# Altium integrated library Altera Cyclone III.IntLib: 225 symbols (part 32 of 46)

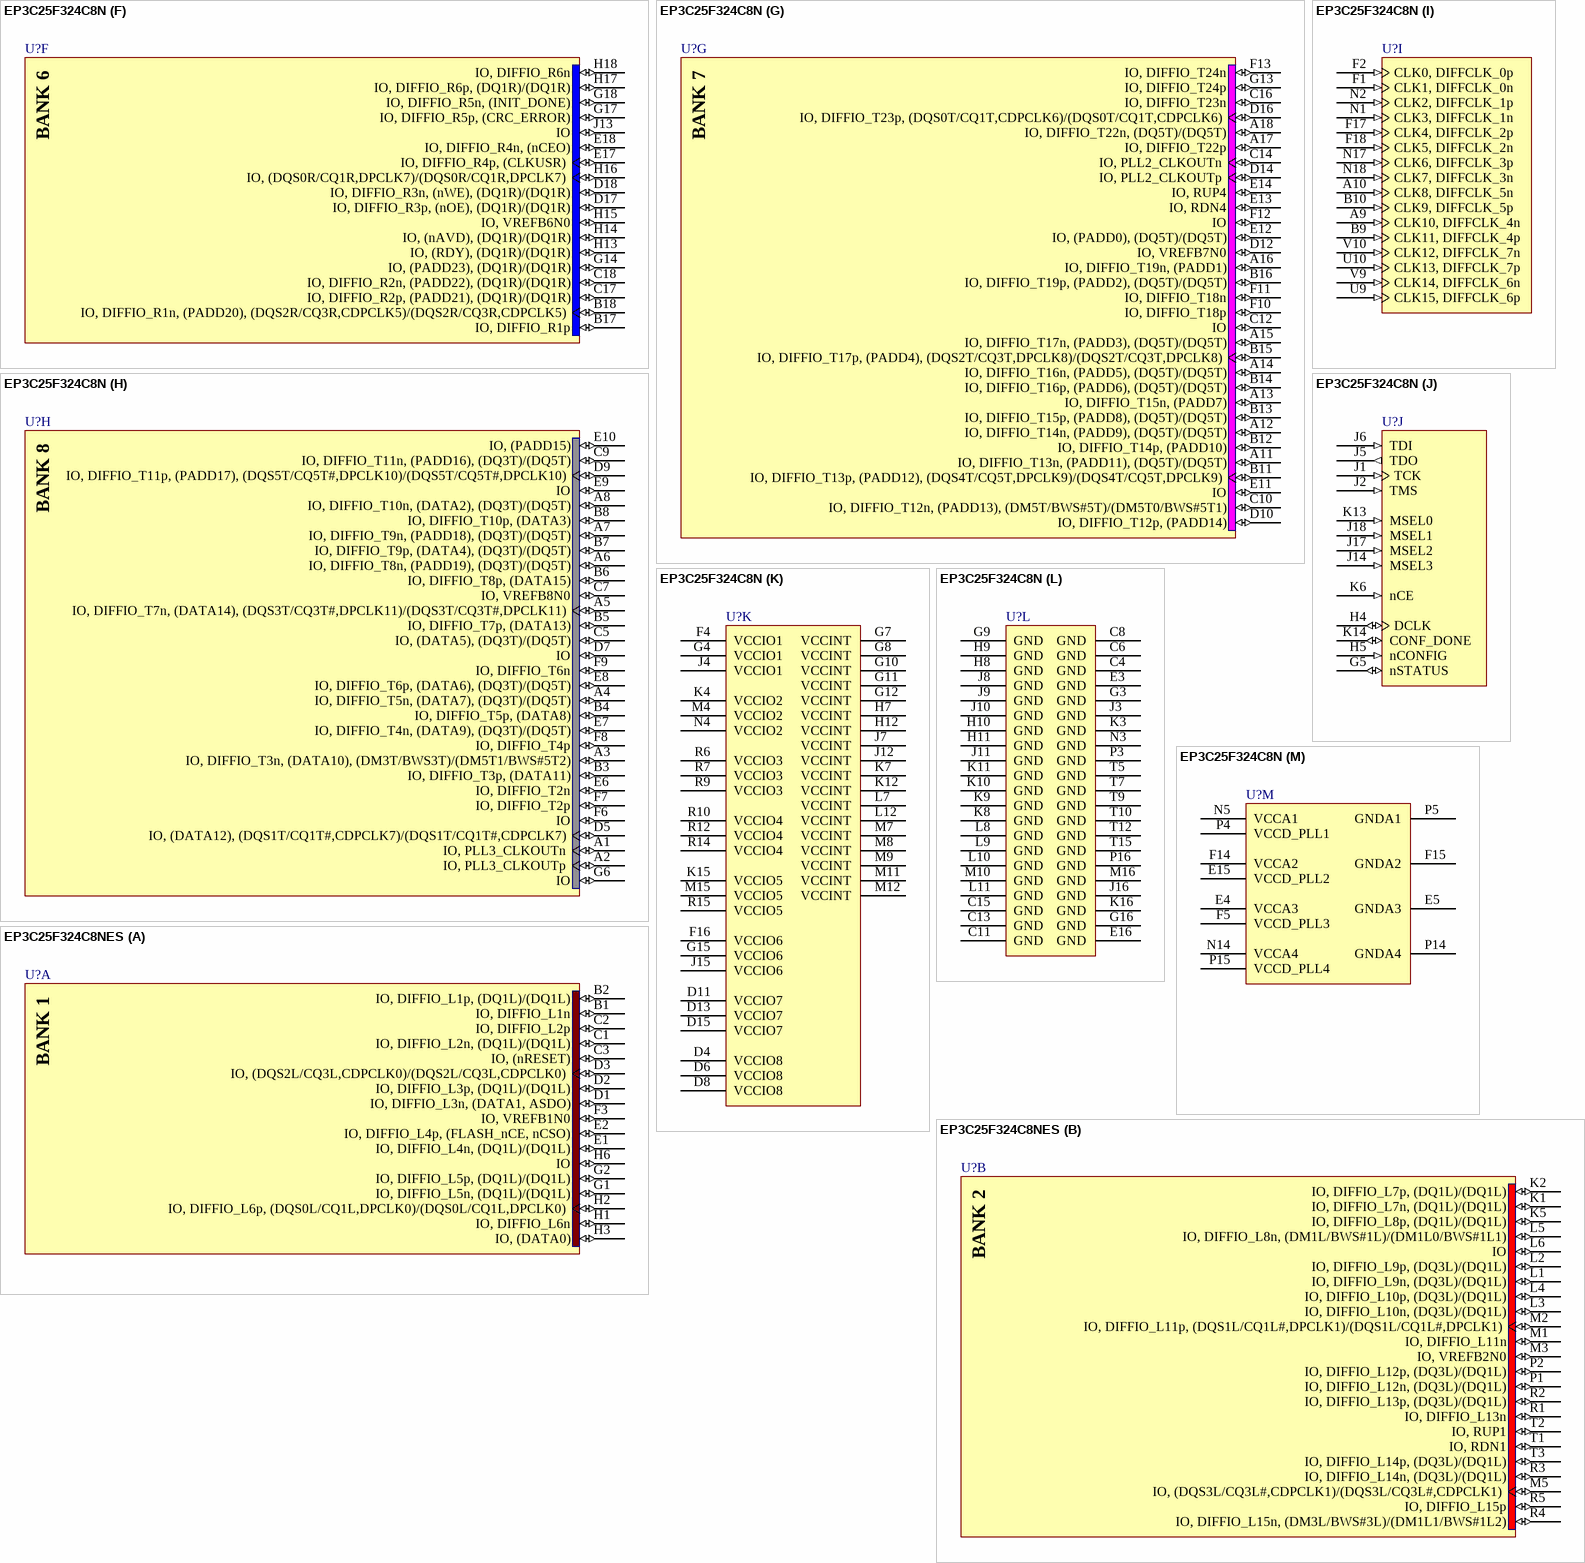
[diagram p149: symbols EP3C25F324C8N to EP3C25F324C8NES]

## EP3C25F324C8N
designator U?
Cyclone III Family FPGA, 215 I/O Pins, 4 PLLs, 324-Pin FBGA, Speed Grade 8, Commercial Grade, Pb-Free; DatasheetVersion: ver2.0, May-2008; PackageVersion: ver16.0, Dec-2009; PackageReference: FBGA324; PackageDescription: 324-Ball FineLine Ball Grid Array (FBGA324) - Wire Bond; Code_JEDEC: MS-034-AAG-1; Code_IPC: BGA100P18X18-324; ComponentLink1Description: Manufacturer URL; ComponentLink1URL: http://www.altera.com/; ComponentLink2Description: Handbook (7.86MB); ComponentLink2URL: http://www.altera.com/literature/hb/cyc3/cyclone3_handbook.pdf; ComponentLink3Description: Package Specification; ComponentLink3URL: http://www.altera.com/literature/ds/dspkg.pdf
footprint FBGA324 (BGA, 324-Leads, Body 19x19mm, Pitch 1mm)
part A pins: B1 IO, DIFFIO_L1n (io), B2 IO, DIFFIO_L1p, (DQ1L)/(DQ1L) (io), C1 IO, DIFFIO_L2n, (DQ1L)/(DQ1L) (io), C2 IO, DIFFIO_L2p (io), C3 IO, (nRESET) (io), D1 IO, DIFFIO_L3n, (DATA1, ASDO) (io), D2 IO, DIFFIO_L3p, (DQ1L)/(DQ1L) (io), D3 IO, (DQS2L/CQ3L,CDPCLK0)/(DQS2L/CQ3L,CDPCLK0) (io), E1 IO, DIFFIO_L4n, (DQ1L)/(DQ1L) (io), E2 IO, DIFFIO_L4p, (FLASH_nCE, nCSO) (io), F3 IO, VREFB1N0 (io), G1 IO, DIFFIO_L5n, (DQ1L)/(DQ1L) (io), G2 IO, DIFFIO_L5p, (DQ1L)/(DQ1L) (io), H1 IO, DIFFIO_L6n (io), H2 IO, DIFFIO_L6p, (DQS0L/CQ1L,DPCLK0)/(DQS0L/CQ1L,DPCLK0) (io), H3 IO, (DATA0) (io), H6 IO (io)
part B pins: K1 IO, DIFFIO_L7n, (DQ1L)/(DQ1L) (io), K2 IO, DIFFIO_L7p, (DQ1L)/(DQ1L) (io), K5 IO, DIFFIO_L8p, (DQ1L)/(DQ1L) (io), L1 IO, DIFFIO_L9n, (DQ3L)/(DQ1L) (io), L2 IO, DIFFIO_L9p, (DQ3L)/(DQ1L) (io), L3 IO, DIFFIO_L10n, (DQ3L)/(DQ1L) (io), L4 IO, DIFFIO_L10p, (DQ3L)/(DQ1L) (io), L5 IO, DIFFIO_L8n, (DM1L/BWS#1L)/(DM1L0/BWS#1L1) (io), L6 IO (io), M1 IO, DIFFIO_L11n (io), M2 IO, DIFFIO_L11p, (DQS1L/CQ1L#,DPCLK1)/(DQS1L/CQ1L#,DPCLK1) (io), M3 IO, VREFB2N0 (io), M5 IO, (DQS3L/CQ3L#,CDPCLK1)/(DQS3L/CQ3L#,CDPCLK1) (io), P1 IO, DIFFIO_L12n, (DQ3L)/(DQ1L) (io), P2 IO, DIFFIO_L12p, (DQ3L)/(DQ1L) (io), R1 IO, DIFFIO_L13n (io), R2 IO, DIFFIO_L13p, (DQ3L)/(DQ1L) (io), R3 IO, DIFFIO_L14n, (DQ3L)/(DQ1L) (io), R4 IO, DIFFIO_L15n, (DM3L/BWS#3L)/(DM1L1/BWS#1L2) (io), R5 IO, DIFFIO_L15p (io), T1 IO, RDN1 (io), T2 IO, RUP1 (io), T3 IO, DIFFIO_L14p, (DQ3L)/(DQ1L) (io)
part C pins: M6 IO, DIFFIO_B2p (io), N6 IO, DIFFIO_B2n (io), N7 IO (io), N8 IO (io), N9 IO (io), P6 IO, (DQS1B/CQ1B#,CDPCLK2)/(DQS1B/CQ1B#,CDPCLK2) (io), P7 IO (io), P8 IO, DIFFIO_B9p (io), P9 IO, DIFFIO_B9n, (DQ3B)/(DQ5B) (io), R8 IO, DIFFIO_B8p, (DQ3B)/(DQ5B) (io), T4 IO (io), T6 IO, VREFB3N0 (io), T8 IO, DIFFIO_B8n, (DQS5B/CQ5B#,DPCLK3)/(DQS5B/CQ5B#,DPCLK3) (io), U1 IO, DIFFIO_B1p (io), U2 IO, PLL1_CLKOUTp (io), U3 IO, DIFFIO_B5p, (DQS3B/CQ3B#,DPCLK2)/(DQS3B/CQ3B#,DPCLK2) (io), U4 IO, DIFFIO_B6p, (DQ3B)/(DQ5B) (io), U5 IO, DIFFIO_B7p (io), U6 IO, DIFFIO_B10p, (DQ3B)/(DQ5B) (io), U7 IO, DIFFIO_B11p (io), U8 IO, DIFFIO_B12p, (DQ3B)/(DQ5B) (io), V1 IO, DIFFIO_B1n (io), V2 IO, PLL1_CLKOUTn (io), V3 IO, DIFFIO_B5n, (DM3B/BWS#3B)/(DM5B1/BWS#5B2) (io), V4 IO, DIFFIO_B6n, (DQ3B)/(DQ5B) (io), V5 IO, DIFFIO_B7n, (DQ3B)/(DQ5B) (io), V6 IO, DIFFIO_B10n, (DQ3B)/(DQ5B) (io), V7 IO, DIFFIO_B11n, (DQ3B)/(DQ5B) (io), V8 IO, DIFFIO_B12n, (DM5B/BWS#5B)/(DM5B0/BWS#5B1) (io)
part D pins: M13 IO, DIFFIO_B25p (io), N10 IO, DIFFIO_B21p (io), N11 IO, DIFFIO_B21n (io), N12 IO, DIFFIO_B24n (io), N13 IO, DIFFIO_B25n (io), P10 IO, DIFFIO_B17p, (DQ5B)/(DQ5B) (io), P11 IO, DIFFIO_B17n (io), P12 IO, (DQS2B/CQ3B,DPCLK5)/(DQS2B/CQ3B,DPCLK5) (io), P13 IO, DIFFIO_B24p (io), R11 IO, (DQ5B)/(DQ5B) (io), R13 IO, (DQS0B/CQ1B,CDPCLK3)/(DQS0B/CQ1B,CDPCLK3) (io), T11 IO, VREFB4N0 (io), T13 IO, RUP2 (io), T14 IO, RDN2 (io), U11 IO, DIFFIO_B13p, (DQ5B)/(DQ5B) (io), U12 IO, DIFFIO_B14p, (DQ5B)/(DQ5B) (io), U13 IO, DIFFIO_B16p, (DQ5B)/(DQ5B) (io), U14 IO, DIFFIO_B18p, (DQ5B)/(DQ5B) (io), U15 IO, DIFFIO_B19p (io), U16 IO, DIFFIO_B20p (io), U17 IO, DIFFIO_B22p (io), U18 IO, PLL4_CLKOUTp (io), V11 IO, DIFFIO_B13n (io), V12 IO, DIFFIO_B14n (io), V13 IO, DIFFIO_B16n, (DQS4B/CQ5B,DPCLK4)/(DQS4B/CQ5B,DPCLK4) (io), V14 IO, DIFFIO_B18n, (DQ5B)/(DQ5B) (io), V15 IO, DIFFIO_B19n, (DQ5B)/(DQ5B) (io), V16 IO, DIFFIO_B20n, (DQ5B)/(DQ5B) (io), V17 IO, DIFFIO_B22n (io), V18 IO, PLL4_CLKOUTn (io)
part E pins: K17 IO, (DQ1R)/(DQ1R) (io), K18 IO, DIFFIO_R8p, (DM1R/BWS#1R)/(DM1R0/BWS#1R1) (io), L13 IO, DIFFIO_R12p, (DQ3R)/(DQ1R) (io), L14 IO, DIFFIO_R11p, (DQ3R)/(DQ1R) (io), L15 IO, DIFFIO_R11n, (DQ3R)/(DQ1R) (io), L16 IO, DIFFIO_R10p, (DQS1R/CQ1R#,DPCLK6)/(DQS1R/CQ1R#,DPCLK6) (io), L17 IO, DIFFIO_R9p, (DEV_CLRn) (io), L18 IO, DIFFIO_R8n (io), M14 IO, DIFFIO_R12n, (DQ3R)/(DQ1R) (io), M17 IO, DIFFIO_R10n, (DQ3R)/(DQ1R) (io), M18 IO, DIFFIO_R9n, (DEV_OE) (io), N15 IO, (DM3R/BWS#3R)/(DM1R1/BWS#1R2) (io), N16 IO, VREFB5N0 (io), P17 IO, DIFFIO_R13p, (DQ3R)/(DQ1R) (io), P18 IO, DIFFIO_R13n, (DQ3R)/(DQ1R) (io), R16 IO, RDN3 (io), R17 IO, DIFFIO_R14p (io), R18 IO, DIFFIO_R14n (io), T16 IO, RUP3, (DQ3R)/(DQ1R) (io), T17 IO, DIFFIO_R15p, (DQ3R)/(DQ1R) (io), T18 IO, DIFFIO_R15n, (DQS3R/CQ3R#,CDPCLK4)/(DQS3R/CQ3R#,CDPCLK4) (io)
part F pins: B17 IO, DIFFIO_R1p (io), B18 IO, DIFFIO_R1n, (PADD20), (DQS2R/CQ3R,CDPCLK5)/(DQS2R/CQ3R,CDPCLK5) (io), C17 IO, DIFFIO_R2p, (PADD21), (DQ1R)/(DQ1R) (io), C18 IO, DIFFIO_R2n, (PADD22), (DQ1R)/(DQ1R) (io), D17 IO, DIFFIO_R3p, (nOE), (DQ1R)/(DQ1R) (io), D18 IO, DIFFIO_R3n, (nWE), (DQ1R)/(DQ1R) (io), E17 IO, DIFFIO_R4p, (CLKUSR) (io), E18 IO, DIFFIO_R4n, (nCEO) (io), G14 IO, (PADD23), (DQ1R)/(DQ1R) (io), G17 IO, DIFFIO_R5p, (CRC_ERROR) (io), G18 IO, DIFFIO_R5n, (INIT_DONE) (io), H13 IO, (RDY), (DQ1R)/(DQ1R) (io), H14 IO, (nAVD), (DQ1R)/(DQ1R) (io), H15 IO, VREFB6N0 (io), H16 IO, (DQS0R/CQ1R,DPCLK7)/(DQS0R/CQ1R,DPCLK7) (io), H17 IO, DIFFIO_R6p, (DQ1R)/(DQ1R) (io), H18 IO, DIFFIO_R6n (io), J13 IO (io)
part G pins: A11 IO, DIFFIO_T13n, (PADD11), (DQ5T)/(DQ5T) (io), A12 IO, DIFFIO_T14n, (PADD9), (DQ5T)/(DQ5T) (io), A13 IO, DIFFIO_T15n, (PADD7) (io), A14 IO, DIFFIO_T16n, (PADD5), (DQ5T)/(DQ5T) (io), A15 IO, DIFFIO_T17n, (PADD3), (DQ5T)/(DQ5T) (io), A16 IO, DIFFIO_T19n, (PADD1) (io), A17 IO, DIFFIO_T22p (io), A18 IO, DIFFIO_T22n, (DQ5T)/(DQ5T) (io), B11 IO, DIFFIO_T13p, (PADD12), (DQS4T/CQ5T,DPCLK9)/(DQS4T/CQ5T,DPCLK9) (io), B12 IO, DIFFIO_T14p, (PADD10) (io), B13 IO, DIFFIO_T15p, (PADD8), (DQ5T)/(DQ5T) (io), B14 IO, DIFFIO_T16p, (PADD6), (DQ5T)/(DQ5T) (io), B15 IO, DIFFIO_T17p, (PADD4), (DQS2T/CQ3T,DPCLK8)/(DQS2T/CQ3T,DPCLK8) (io), B16 IO, DIFFIO_T19p, (PADD2), (DQ5T)/(DQ5T) (io), C10 IO, DIFFIO_T12n, (PADD13), (DM5T/BWS#5T)/(DM5T0/BWS#5T1) (io), C12 IO (io), C14 IO, PLL2_CLKOUTn (io), C16 IO, DIFFIO_T23n (io), D10 IO, DIFFIO_T12p, (PADD14) (io), D12 IO, VREFB7N0 (io), D14 IO, PLL2_CLKOUTp (io), D16 IO, DIFFIO_T23p, (DQS0T/CQ1T,CDPCLK6)/(DQS0T/CQ1T,CDPCLK6) (io), E11 IO (io), E12 IO, (PADD0), (DQ5T)/(DQ5T) (io), E13 IO, RDN4 (io), E14 IO, RUP4 (io), F10 IO, DIFFIO_T18p (io), F11 IO, DIFFIO_T18n (io), F12 IO (io), F13 IO, DIFFIO_T24n (io), G13 IO, DIFFIO_T24p (io)
part H pins: A1 IO, PLL3_CLKOUTn (io), A2 IO, PLL3_CLKOUTp (io), A3 IO, DIFFIO_T3n, (DATA10), (DM3T/BWS3T)/(DM5T1/BWS#5T2) (io), A4 IO, DIFFIO_T5n, (DATA7), (DQ3T)/(DQ5T) (io), A5 IO, DIFFIO_T7n, (DATA14), (DQS3T/CQ3T#,DPCLK11)/(DQS3T/CQ3T#,DPCLK11) (io), A6 IO, DIFFIO_T8n, (PADD19), (DQ3T)/(DQ5T) (io), A7 IO, DIFFIO_T9n, (PADD18), (DQ3T)/(DQ5T) (io), A8 IO, DIFFIO_T10n, (DATA2), (DQ3T)/(DQ5T) (io), B3 IO, DIFFIO_T3p, (DATA11) (io), B4 IO, DIFFIO_T5p, (DATA8) (io), B5 IO, DIFFIO_T7p, (DATA13) (io), B6 IO, DIFFIO_T8p, (DATA15) (io), B7 IO, DIFFIO_T9p, (DATA4), (DQ3T)/(DQ5T) (io), B8 IO, DIFFIO_T10p, (DATA3) (io), C5 IO, (DATA5), (DQ3T)/(DQ5T) (io), C7 IO, VREFB8N0 (io), C9 IO, DIFFIO_T11n, (PADD16), (DQ3T)/(DQ5T) (io), D5 IO, (DATA12), (DQS1T/CQ1T#,CDPCLK7)/(DQS1T/CQ1T#,CDPCLK7) (io), D7 IO (io), D9 IO, DIFFIO_T11p, (PADD17), (DQS5T/CQ5T#,DPCLK10)/(DQS5T/CQ5T#,DPCLK10) (io), E6 IO, DIFFIO_T2n (io), E7 IO, DIFFIO_T4n, (DATA9), (DQ3T)/(DQ5T) (io), E8 IO, DIFFIO_T6p, (DATA6), (DQ3T)/(DQ5T) (io), E9 IO (io), E10 IO, (PADD15) (io), F6 IO (io), F7 IO, DIFFIO_T2p (io), F8 IO, DIFFIO_T4p (io), F9 IO, DIFFIO_T6n (io), G6 IO (io)
part I pins: A9 CLK10, DIFFCLK_4n (in), A10 CLK8, DIFFCLK_5n (in), B9 CLK11, DIFFCLK_4p (in), B10 CLK9, DIFFCLK_5p (in), F1 CLK1, DIFFCLK_0n (in), F2 CLK0, DIFFCLK_0p (in), F17 CLK4, DIFFCLK_2p (in), F18 CLK5, DIFFCLK_2n (in), N1 CLK3, DIFFCLK_1n (in), N2 CLK2, DIFFCLK_1p (in), N17 CLK6, DIFFCLK_3p (in), N18 CLK7, DIFFCLK_3n (in), U9 CLK15, DIFFCLK_6p (in), U10 CLK13, DIFFCLK_7p (in), V9 CLK14, DIFFCLK_6n (in), V10 CLK12, DIFFCLK_7n (in)
part J pins: G5 nSTATUS (io), H4 DCLK (io), H5 nCONFIG (in), J1 TCK (in), J2 TMS (in), J5 TDO (out), J6 TDI (in), J14 MSEL3 (in), J17 MSEL2 (in), J18 MSEL1 (in), K6 nCE (in), K13 MSEL0 (in), K14 CONF_DONE (io)
part K pins: D4 VCCIO8 (power), D6 VCCIO8 (power), D8 VCCIO8 (power), D11 VCCIO7 (power), D13 VCCIO7 (power), D15 VCCIO7 (power), F4 VCCIO1 (power), F16 VCCIO6 (power), G4 VCCIO1 (power), G7 VCCINT (power), G8 VCCINT (power), G10 VCCINT (power), G11 VCCINT (power), G12 VCCINT (power), G15 VCCIO6 (power), H7 VCCINT (power), H12 VCCINT (power), J4 VCCIO1 (power), J7 VCCINT (power), J12 VCCINT (power), J15 VCCIO6 (power), K4 VCCIO2 (power), K7 VCCINT (power), K12 VCCINT (power), K15 VCCIO5 (power), L7 VCCINT (power), L12 VCCINT (power), M4 VCCIO2 (power), M7 VCCINT (power), M8 VCCINT (power), M9 VCCINT (power), M11 VCCINT (power), M12 VCCINT (power), M15 VCCIO5 (power), N4 VCCIO2 (power), R6 VCCIO3 (power), R7 VCCIO3 (power), R9 VCCIO3 (power), R10 VCCIO4 (power), R12 VCCIO4 (power), R14 VCCIO4 (power), R15 VCCIO5 (power)
part L pins: C4 GND (power), C6 GND (power), C8 GND (power), C11 GND (power), C13 GND (power), C15 GND (power), E3 GND (power), E16 GND (power), G3 GND (power), G9 GND (power), G16 GND (power), H8 GND (power), H9 GND (power), H10 GND (power), H11 GND (power), J3 GND (power), J8 GND (power), J9 GND (power), J10 GND (power), J11 GND (power), J16 GND (power), K3 GND (power), K8 GND (power), K9 GND (power), K10 GND (power), K11 GND (power), K16 GND (power), L8 GND (power), L9 GND (power), L10 GND (power), L11 GND (power), M10 GND (power), M16 GND (power), N3 GND (power), P3 GND (power), P16 GND (power), T5 GND (power), T7 GND (power), T9 GND (power), T10 GND (power), T12 GND (power), T15 GND (power)
part M pins: E4 VCCA3 (power), E5 GNDA3 (power), E15 VCCD_PLL2 (power), F5 VCCD_PLL3 (power), F14 VCCA2 (power), F15 GNDA2 (power), N5 VCCA1 (power), N14 VCCA4 (power), P4 VCCD_PLL1 (power), P5 GNDA1 (power), P14 GNDA4 (power), P15 VCCD_PLL4 (power)
part A text: BANK 1
part B text: BANK 2
part C text: BANK 3
part D text: BANK 4
part E text: BANK 5
part F text: BANK 6
part G text: BANK 7
part H text: BANK 8

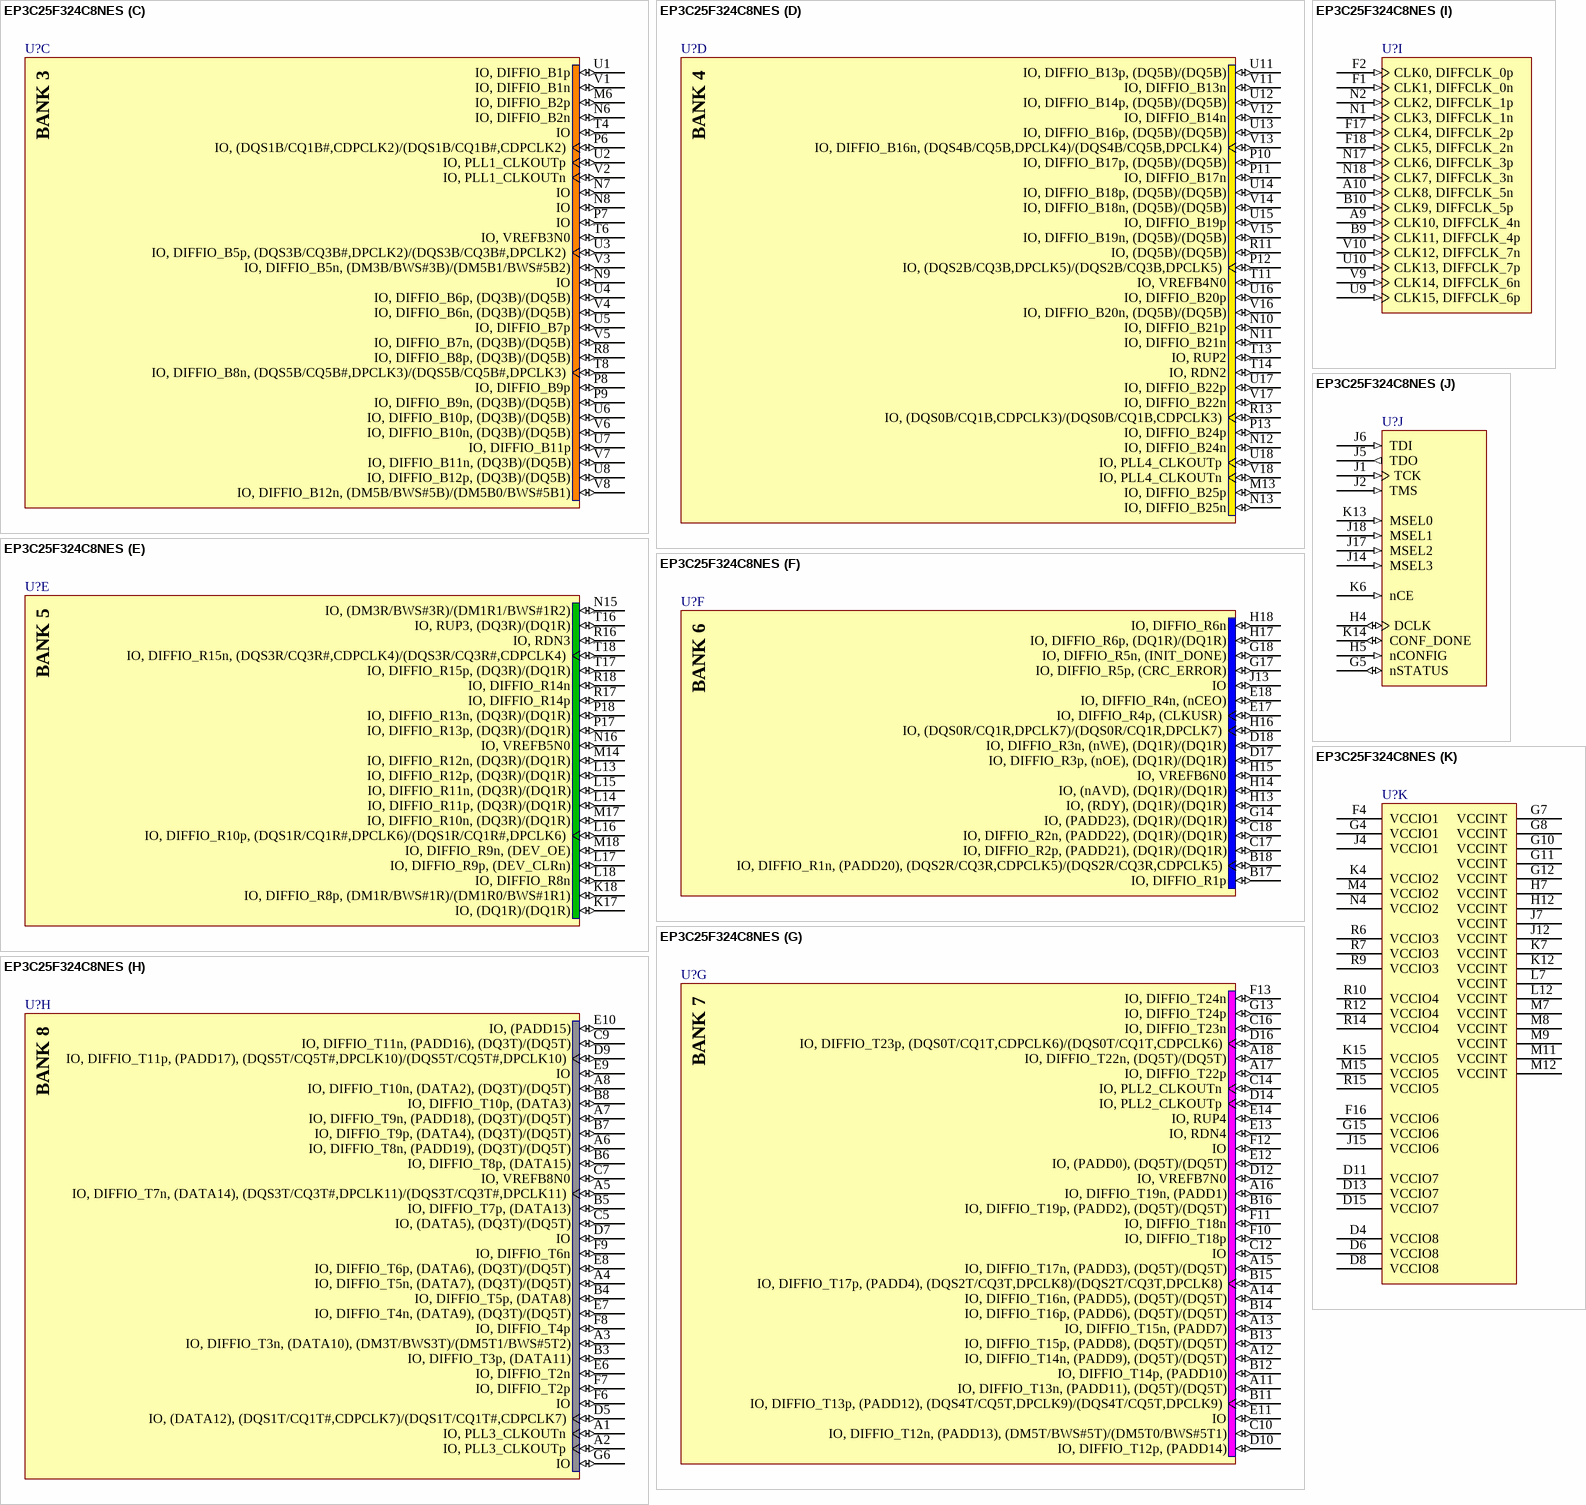
[diagram p150: symbol EP3C25F324C8NES]

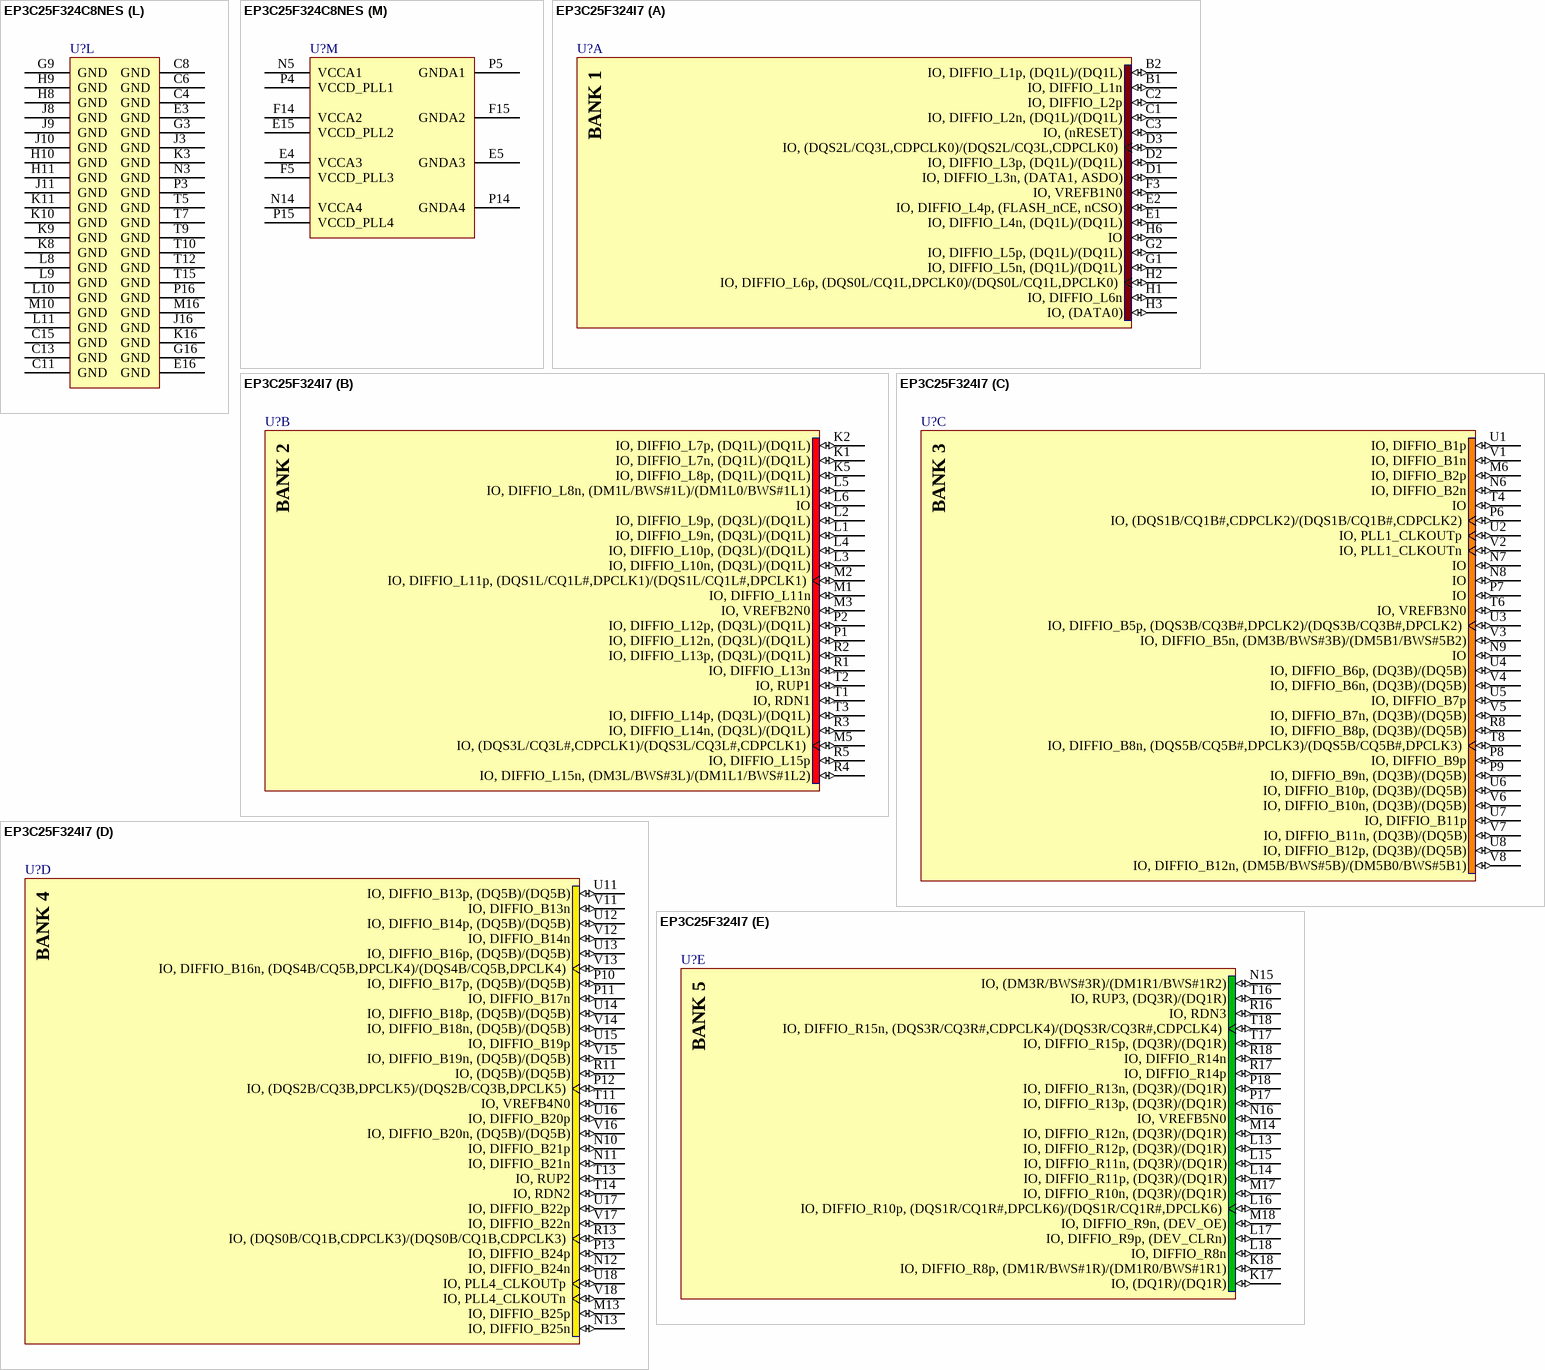
[diagram p151: symbols EP3C25F324C8NES to EP3C25F324I7]

## EP3C25F324C8NES
designator U?
Cyclone III Family FPGA, 215 I/O Pins, 4 PLLs, 324-Pin FBGA, Speed Grade 8, Commercial Grade, Pb-Free, Engineering Sample; DatasheetVersion: ver2.0, May-2008; PackageVersion: ver16.0, Dec-2009; PackageReference: FBGA324; PackageDescription: 324-Ball FineLine Ball Grid Array (FBGA324) - Wire Bond; Code_JEDEC: MS-034-AAG-1; Code_IPC: BGA100P18X18-324; ComponentLink1Description: Manufacturer URL; ComponentLink1URL: http://www.altera.com/; ComponentLink2Description: Handbook (7.86MB); ComponentLink2URL: http://www.altera.com/literature/hb/cyc3/cyclone3_handbook.pdf; ComponentLink3Description: Package Specification; ComponentLink3URL: http://www.altera.com/literature/ds/dspkg.pdf
footprint FBGA324 (BGA, 324-Leads, Body 19x19mm, Pitch 1mm)
part A pins: B1 IO, DIFFIO_L1n (io), B2 IO, DIFFIO_L1p, (DQ1L)/(DQ1L) (io), C1 IO, DIFFIO_L2n, (DQ1L)/(DQ1L) (io), C2 IO, DIFFIO_L2p (io), C3 IO, (nRESET) (io), D1 IO, DIFFIO_L3n, (DATA1, ASDO) (io), D2 IO, DIFFIO_L3p, (DQ1L)/(DQ1L) (io), D3 IO, (DQS2L/CQ3L,CDPCLK0)/(DQS2L/CQ3L,CDPCLK0) (io), E1 IO, DIFFIO_L4n, (DQ1L)/(DQ1L) (io), E2 IO, DIFFIO_L4p, (FLASH_nCE, nCSO) (io), F3 IO, VREFB1N0 (io), G1 IO, DIFFIO_L5n, (DQ1L)/(DQ1L) (io), G2 IO, DIFFIO_L5p, (DQ1L)/(DQ1L) (io), H1 IO, DIFFIO_L6n (io), H2 IO, DIFFIO_L6p, (DQS0L/CQ1L,DPCLK0)/(DQS0L/CQ1L,DPCLK0) (io), H3 IO, (DATA0) (io), H6 IO (io)
part B pins: K1 IO, DIFFIO_L7n, (DQ1L)/(DQ1L) (io), K2 IO, DIFFIO_L7p, (DQ1L)/(DQ1L) (io), K5 IO, DIFFIO_L8p, (DQ1L)/(DQ1L) (io), L1 IO, DIFFIO_L9n, (DQ3L)/(DQ1L) (io), L2 IO, DIFFIO_L9p, (DQ3L)/(DQ1L) (io), L3 IO, DIFFIO_L10n, (DQ3L)/(DQ1L) (io), L4 IO, DIFFIO_L10p, (DQ3L)/(DQ1L) (io), L5 IO, DIFFIO_L8n, (DM1L/BWS#1L)/(DM1L0/BWS#1L1) (io), L6 IO (io), M1 IO, DIFFIO_L11n (io), M2 IO, DIFFIO_L11p, (DQS1L/CQ1L#,DPCLK1)/(DQS1L/CQ1L#,DPCLK1) (io), M3 IO, VREFB2N0 (io), M5 IO, (DQS3L/CQ3L#,CDPCLK1)/(DQS3L/CQ3L#,CDPCLK1) (io), P1 IO, DIFFIO_L12n, (DQ3L)/(DQ1L) (io), P2 IO, DIFFIO_L12p, (DQ3L)/(DQ1L) (io), R1 IO, DIFFIO_L13n (io), R2 IO, DIFFIO_L13p, (DQ3L)/(DQ1L) (io), R3 IO, DIFFIO_L14n, (DQ3L)/(DQ1L) (io), R4 IO, DIFFIO_L15n, (DM3L/BWS#3L)/(DM1L1/BWS#1L2) (io), R5 IO, DIFFIO_L15p (io), T1 IO, RDN1 (io), T2 IO, RUP1 (io), T3 IO, DIFFIO_L14p, (DQ3L)/(DQ1L) (io)
part C pins: M6 IO, DIFFIO_B2p (io), N6 IO, DIFFIO_B2n (io), N7 IO (io), N8 IO (io), N9 IO (io), P6 IO, (DQS1B/CQ1B#,CDPCLK2)/(DQS1B/CQ1B#,CDPCLK2) (io), P7 IO (io), P8 IO, DIFFIO_B9p (io), P9 IO, DIFFIO_B9n, (DQ3B)/(DQ5B) (io), R8 IO, DIFFIO_B8p, (DQ3B)/(DQ5B) (io), T4 IO (io), T6 IO, VREFB3N0 (io), T8 IO, DIFFIO_B8n, (DQS5B/CQ5B#,DPCLK3)/(DQS5B/CQ5B#,DPCLK3) (io), U1 IO, DIFFIO_B1p (io), U2 IO, PLL1_CLKOUTp (io), U3 IO, DIFFIO_B5p, (DQS3B/CQ3B#,DPCLK2)/(DQS3B/CQ3B#,DPCLK2) (io), U4 IO, DIFFIO_B6p, (DQ3B)/(DQ5B) (io), U5 IO, DIFFIO_B7p (io), U6 IO, DIFFIO_B10p, (DQ3B)/(DQ5B) (io), U7 IO, DIFFIO_B11p (io), U8 IO, DIFFIO_B12p, (DQ3B)/(DQ5B) (io), V1 IO, DIFFIO_B1n (io), V2 IO, PLL1_CLKOUTn (io), V3 IO, DIFFIO_B5n, (DM3B/BWS#3B)/(DM5B1/BWS#5B2) (io), V4 IO, DIFFIO_B6n, (DQ3B)/(DQ5B) (io), V5 IO, DIFFIO_B7n, (DQ3B)/(DQ5B) (io), V6 IO, DIFFIO_B10n, (DQ3B)/(DQ5B) (io), V7 IO, DIFFIO_B11n, (DQ3B)/(DQ5B) (io), V8 IO, DIFFIO_B12n, (DM5B/BWS#5B)/(DM5B0/BWS#5B1) (io)
part D pins: M13 IO, DIFFIO_B25p (io), N10 IO, DIFFIO_B21p (io), N11 IO, DIFFIO_B21n (io), N12 IO, DIFFIO_B24n (io), N13 IO, DIFFIO_B25n (io), P10 IO, DIFFIO_B17p, (DQ5B)/(DQ5B) (io), P11 IO, DIFFIO_B17n (io), P12 IO, (DQS2B/CQ3B,DPCLK5)/(DQS2B/CQ3B,DPCLK5) (io), P13 IO, DIFFIO_B24p (io), R11 IO, (DQ5B)/(DQ5B) (io), R13 IO, (DQS0B/CQ1B,CDPCLK3)/(DQS0B/CQ1B,CDPCLK3) (io), T11 IO, VREFB4N0 (io), T13 IO, RUP2 (io), T14 IO, RDN2 (io), U11 IO, DIFFIO_B13p, (DQ5B)/(DQ5B) (io), U12 IO, DIFFIO_B14p, (DQ5B)/(DQ5B) (io), U13 IO, DIFFIO_B16p, (DQ5B)/(DQ5B) (io), U14 IO, DIFFIO_B18p, (DQ5B)/(DQ5B) (io), U15 IO, DIFFIO_B19p (io), U16 IO, DIFFIO_B20p (io), U17 IO, DIFFIO_B22p (io), U18 IO, PLL4_CLKOUTp (io), V11 IO, DIFFIO_B13n (io), V12 IO, DIFFIO_B14n (io), V13 IO, DIFFIO_B16n, (DQS4B/CQ5B,DPCLK4)/(DQS4B/CQ5B,DPCLK4) (io), V14 IO, DIFFIO_B18n, (DQ5B)/(DQ5B) (io), V15 IO, DIFFIO_B19n, (DQ5B)/(DQ5B) (io), V16 IO, DIFFIO_B20n, (DQ5B)/(DQ5B) (io), V17 IO, DIFFIO_B22n (io), V18 IO, PLL4_CLKOUTn (io)
part E pins: K17 IO, (DQ1R)/(DQ1R) (io), K18 IO, DIFFIO_R8p, (DM1R/BWS#1R)/(DM1R0/BWS#1R1) (io), L13 IO, DIFFIO_R12p, (DQ3R)/(DQ1R) (io), L14 IO, DIFFIO_R11p, (DQ3R)/(DQ1R) (io), L15 IO, DIFFIO_R11n, (DQ3R)/(DQ1R) (io), L16 IO, DIFFIO_R10p, (DQS1R/CQ1R#,DPCLK6)/(DQS1R/CQ1R#,DPCLK6) (io), L17 IO, DIFFIO_R9p, (DEV_CLRn) (io), L18 IO, DIFFIO_R8n (io), M14 IO, DIFFIO_R12n, (DQ3R)/(DQ1R) (io), M17 IO, DIFFIO_R10n, (DQ3R)/(DQ1R) (io), M18 IO, DIFFIO_R9n, (DEV_OE) (io), N15 IO, (DM3R/BWS#3R)/(DM1R1/BWS#1R2) (io), N16 IO, VREFB5N0 (io), P17 IO, DIFFIO_R13p, (DQ3R)/(DQ1R) (io), P18 IO, DIFFIO_R13n, (DQ3R)/(DQ1R) (io), R16 IO, RDN3 (io), R17 IO, DIFFIO_R14p (io), R18 IO, DIFFIO_R14n (io), T16 IO, RUP3, (DQ3R)/(DQ1R) (io), T17 IO, DIFFIO_R15p, (DQ3R)/(DQ1R) (io), T18 IO, DIFFIO_R15n, (DQS3R/CQ3R#,CDPCLK4)/(DQS3R/CQ3R#,CDPCLK4) (io)
part F pins: B17 IO, DIFFIO_R1p (io), B18 IO, DIFFIO_R1n, (PADD20), (DQS2R/CQ3R,CDPCLK5)/(DQS2R/CQ3R,CDPCLK5) (io), C17 IO, DIFFIO_R2p, (PADD21), (DQ1R)/(DQ1R) (io), C18 IO, DIFFIO_R2n, (PADD22), (DQ1R)/(DQ1R) (io), D17 IO, DIFFIO_R3p, (nOE), (DQ1R)/(DQ1R) (io), D18 IO, DIFFIO_R3n, (nWE), (DQ1R)/(DQ1R) (io), E17 IO, DIFFIO_R4p, (CLKUSR) (io), E18 IO, DIFFIO_R4n, (nCEO) (io), G14 IO, (PADD23), (DQ1R)/(DQ1R) (io), G17 IO, DIFFIO_R5p, (CRC_ERROR) (io), G18 IO, DIFFIO_R5n, (INIT_DONE) (io), H13 IO, (RDY), (DQ1R)/(DQ1R) (io), H14 IO, (nAVD), (DQ1R)/(DQ1R) (io), H15 IO, VREFB6N0 (io), H16 IO, (DQS0R/CQ1R,DPCLK7)/(DQS0R/CQ1R,DPCLK7) (io), H17 IO, DIFFIO_R6p, (DQ1R)/(DQ1R) (io), H18 IO, DIFFIO_R6n (io), J13 IO (io)
part G pins: A11 IO, DIFFIO_T13n, (PADD11), (DQ5T)/(DQ5T) (io), A12 IO, DIFFIO_T14n, (PADD9), (DQ5T)/(DQ5T) (io), A13 IO, DIFFIO_T15n, (PADD7) (io), A14 IO, DIFFIO_T16n, (PADD5), (DQ5T)/(DQ5T) (io), A15 IO, DIFFIO_T17n, (PADD3), (DQ5T)/(DQ5T) (io), A16 IO, DIFFIO_T19n, (PADD1) (io), A17 IO, DIFFIO_T22p (io), A18 IO, DIFFIO_T22n, (DQ5T)/(DQ5T) (io), B11 IO, DIFFIO_T13p, (PADD12), (DQS4T/CQ5T,DPCLK9)/(DQS4T/CQ5T,DPCLK9) (io), B12 IO, DIFFIO_T14p, (PADD10) (io), B13 IO, DIFFIO_T15p, (PADD8), (DQ5T)/(DQ5T) (io), B14 IO, DIFFIO_T16p, (PADD6), (DQ5T)/(DQ5T) (io), B15 IO, DIFFIO_T17p, (PADD4), (DQS2T/CQ3T,DPCLK8)/(DQS2T/CQ3T,DPCLK8) (io), B16 IO, DIFFIO_T19p, (PADD2), (DQ5T)/(DQ5T) (io), C10 IO, DIFFIO_T12n, (PADD13), (DM5T/BWS#5T)/(DM5T0/BWS#5T1) (io), C12 IO (io), C14 IO, PLL2_CLKOUTn (io), C16 IO, DIFFIO_T23n (io), D10 IO, DIFFIO_T12p, (PADD14) (io), D12 IO, VREFB7N0 (io), D14 IO, PLL2_CLKOUTp (io), D16 IO, DIFFIO_T23p, (DQS0T/CQ1T,CDPCLK6)/(DQS0T/CQ1T,CDPCLK6) (io), E11 IO (io), E12 IO, (PADD0), (DQ5T)/(DQ5T) (io), E13 IO, RDN4 (io), E14 IO, RUP4 (io), F10 IO, DIFFIO_T18p (io), F11 IO, DIFFIO_T18n (io), F12 IO (io), F13 IO, DIFFIO_T24n (io), G13 IO, DIFFIO_T24p (io)
part H pins: A1 IO, PLL3_CLKOUTn (io), A2 IO, PLL3_CLKOUTp (io), A3 IO, DIFFIO_T3n, (DATA10), (DM3T/BWS3T)/(DM5T1/BWS#5T2) (io), A4 IO, DIFFIO_T5n, (DATA7), (DQ3T)/(DQ5T) (io), A5 IO, DIFFIO_T7n, (DATA14), (DQS3T/CQ3T#,DPCLK11)/(DQS3T/CQ3T#,DPCLK11) (io), A6 IO, DIFFIO_T8n, (PADD19), (DQ3T)/(DQ5T) (io), A7 IO, DIFFIO_T9n, (PADD18), (DQ3T)/(DQ5T) (io), A8 IO, DIFFIO_T10n, (DATA2), (DQ3T)/(DQ5T) (io), B3 IO, DIFFIO_T3p, (DATA11) (io), B4 IO, DIFFIO_T5p, (DATA8) (io), B5 IO, DIFFIO_T7p, (DATA13) (io), B6 IO, DIFFIO_T8p, (DATA15) (io), B7 IO, DIFFIO_T9p, (DATA4), (DQ3T)/(DQ5T) (io), B8 IO, DIFFIO_T10p, (DATA3) (io), C5 IO, (DATA5), (DQ3T)/(DQ5T) (io), C7 IO, VREFB8N0 (io), C9 IO, DIFFIO_T11n, (PADD16), (DQ3T)/(DQ5T) (io), D5 IO, (DATA12), (DQS1T/CQ1T#,CDPCLK7)/(DQS1T/CQ1T#,CDPCLK7) (io), D7 IO (io), D9 IO, DIFFIO_T11p, (PADD17), (DQS5T/CQ5T#,DPCLK10)/(DQS5T/CQ5T#,DPCLK10) (io), E6 IO, DIFFIO_T2n (io), E7 IO, DIFFIO_T4n, (DATA9), (DQ3T)/(DQ5T) (io), E8 IO, DIFFIO_T6p, (DATA6), (DQ3T)/(DQ5T) (io), E9 IO (io), E10 IO, (PADD15) (io), F6 IO (io), F7 IO, DIFFIO_T2p (io), F8 IO, DIFFIO_T4p (io), F9 IO, DIFFIO_T6n (io), G6 IO (io)
part I pins: A9 CLK10, DIFFCLK_4n (in), A10 CLK8, DIFFCLK_5n (in), B9 CLK11, DIFFCLK_4p (in), B10 CLK9, DIFFCLK_5p (in), F1 CLK1, DIFFCLK_0n (in), F2 CLK0, DIFFCLK_0p (in), F17 CLK4, DIFFCLK_2p (in), F18 CLK5, DIFFCLK_2n (in), N1 CLK3, DIFFCLK_1n (in), N2 CLK2, DIFFCLK_1p (in), N17 CLK6, DIFFCLK_3p (in), N18 CLK7, DIFFCLK_3n (in), U9 CLK15, DIFFCLK_6p (in), U10 CLK13, DIFFCLK_7p (in), V9 CLK14, DIFFCLK_6n (in), V10 CLK12, DIFFCLK_7n (in)
part J pins: G5 nSTATUS (io), H4 DCLK (io), H5 nCONFIG (in), J1 TCK (in), J2 TMS (in), J5 TDO (out), J6 TDI (in), J14 MSEL3 (in), J17 MSEL2 (in), J18 MSEL1 (in), K6 nCE (in), K13 MSEL0 (in), K14 CONF_DONE (io)
part K pins: D4 VCCIO8 (power), D6 VCCIO8 (power), D8 VCCIO8 (power), D11 VCCIO7 (power), D13 VCCIO7 (power), D15 VCCIO7 (power), F4 VCCIO1 (power), F16 VCCIO6 (power), G4 VCCIO1 (power), G7 VCCINT (power), G8 VCCINT (power), G10 VCCINT (power), G11 VCCINT (power), G12 VCCINT (power), G15 VCCIO6 (power), H7 VCCINT (power), H12 VCCINT (power), J4 VCCIO1 (power), J7 VCCINT (power), J12 VCCINT (power), J15 VCCIO6 (power), K4 VCCIO2 (power), K7 VCCINT (power), K12 VCCINT (power), K15 VCCIO5 (power), L7 VCCINT (power), L12 VCCINT (power), M4 VCCIO2 (power), M7 VCCINT (power), M8 VCCINT (power), M9 VCCINT (power), M11 VCCINT (power), M12 VCCINT (power), M15 VCCIO5 (power), N4 VCCIO2 (power), R6 VCCIO3 (power), R7 VCCIO3 (power), R9 VCCIO3 (power), R10 VCCIO4 (power), R12 VCCIO4 (power), R14 VCCIO4 (power), R15 VCCIO5 (power)
part L pins: C4 GND (power), C6 GND (power), C8 GND (power), C11 GND (power), C13 GND (power), C15 GND (power), E3 GND (power), E16 GND (power), G3 GND (power), G9 GND (power), G16 GND (power), H8 GND (power), H9 GND (power), H10 GND (power), H11 GND (power), J3 GND (power), J8 GND (power), J9 GND (power), J10 GND (power), J11 GND (power), J16 GND (power), K3 GND (power), K8 GND (power), K9 GND (power), K10 GND (power), K11 GND (power), K16 GND (power), L8 GND (power), L9 GND (power), L10 GND (power), L11 GND (power), M10 GND (power), M16 GND (power), N3 GND (power), P3 GND (power), P16 GND (power), T5 GND (power), T7 GND (power), T9 GND (power), T10 GND (power), T12 GND (power), T15 GND (power)
part M pins: E4 VCCA3 (power), E5 GNDA3 (power), E15 VCCD_PLL2 (power), F5 VCCD_PLL3 (power), F14 VCCA2 (power), F15 GNDA2 (power), N5 VCCA1 (power), N14 VCCA4 (power), P4 VCCD_PLL1 (power), P5 GNDA1 (power), P14 GNDA4 (power), P15 VCCD_PLL4 (power)
part A text: BANK 1
part B text: BANK 2
part C text: BANK 3
part D text: BANK 4
part E text: BANK 5
part F text: BANK 6
part G text: BANK 7
part H text: BANK 8

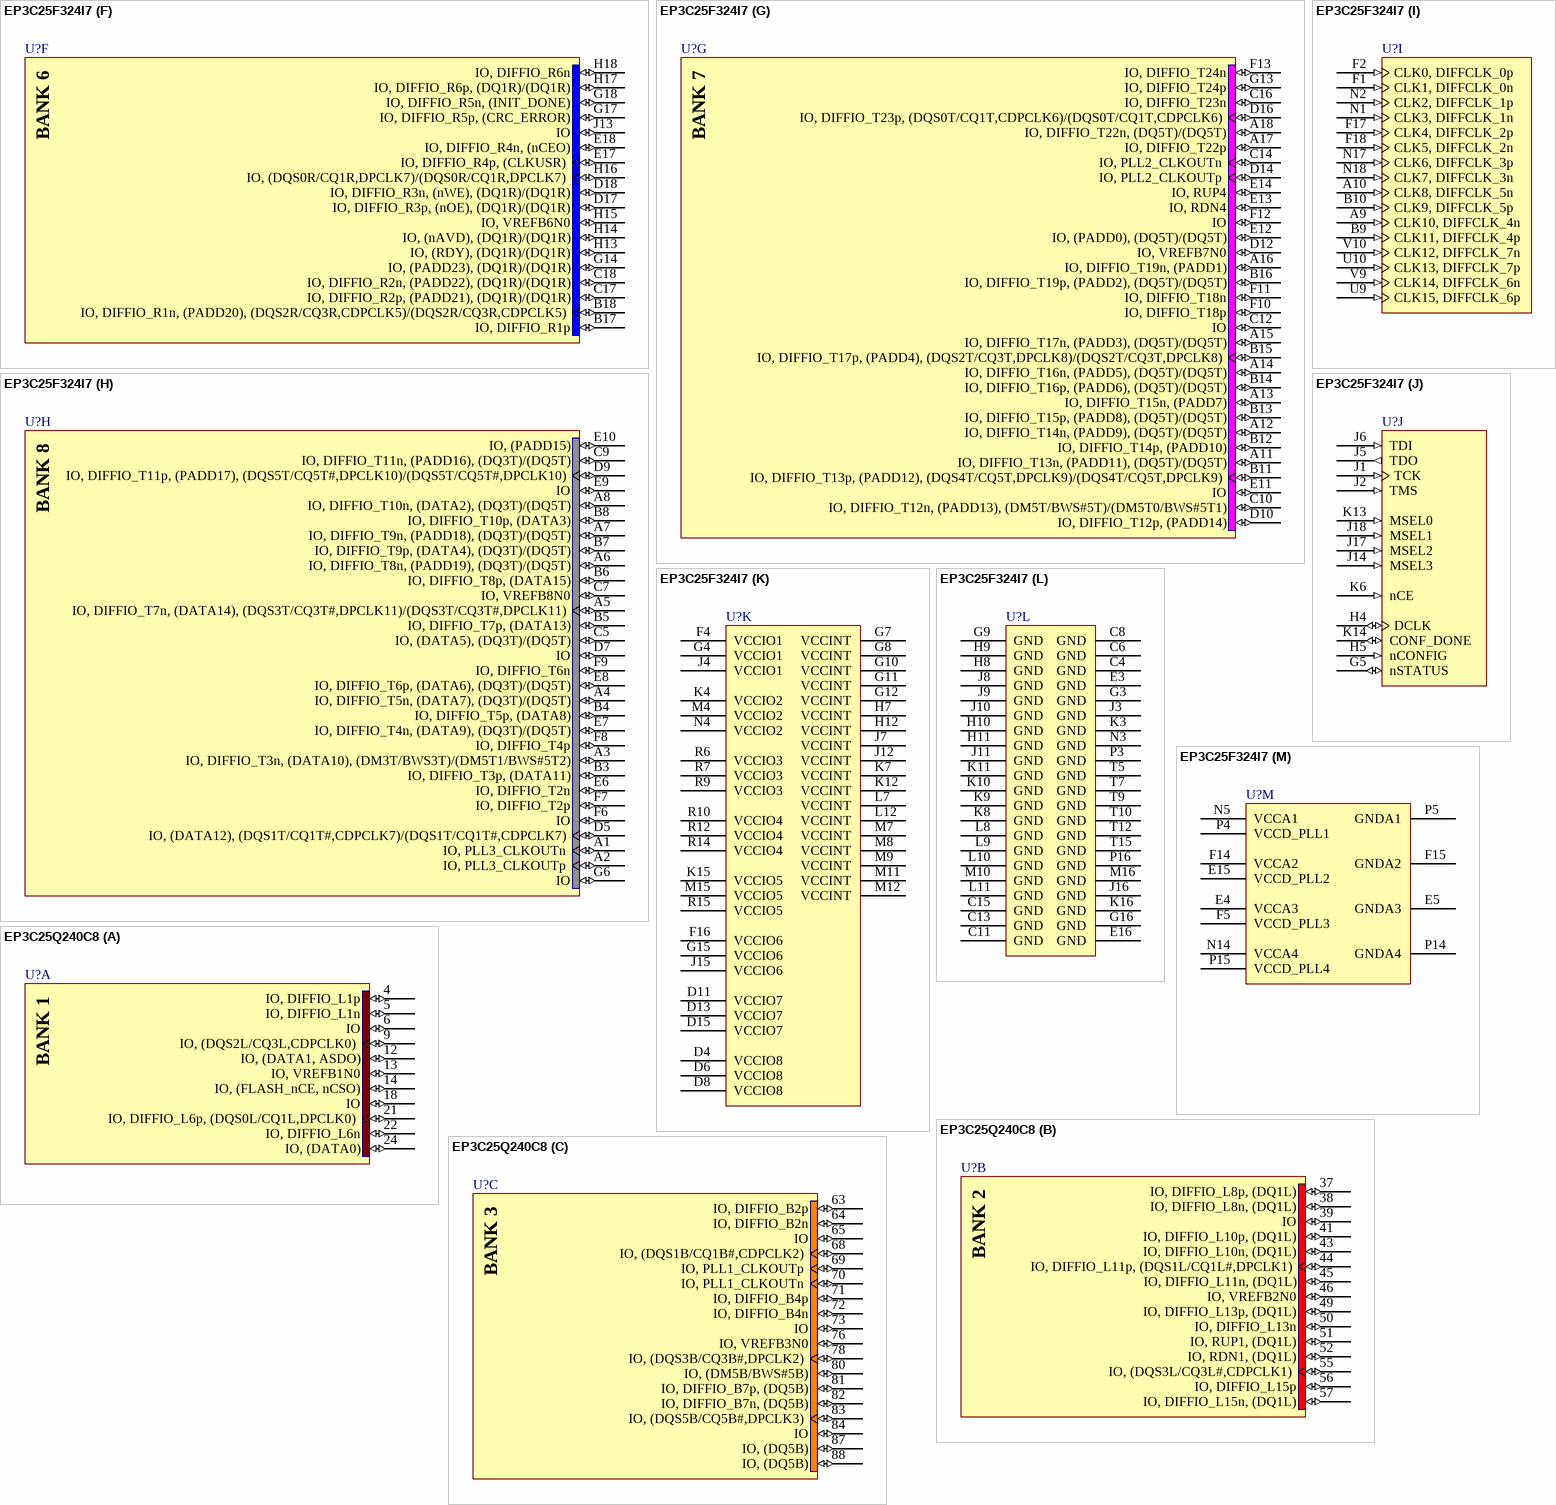
[diagram p152: symbols EP3C25F324I7 to EP3C25Q240C8]

## EP3C25F324I7
designator U?
Cyclone III Family FPGA, 215 I/O Pins, 4 PLLs, 324-Pin FBGA, Speed Grade 7, Industrial Grade; DatasheetVersion: ver2.0, May-2008; PackageVersion: ver16.0, Dec-2009; PackageReference: FBGA324; PackageDescription: 324-Ball FineLine Ball Grid Array (FBGA324) - Wire Bond; Code_JEDEC: MS-034-AAG-1; Code_IPC: BGA100P18X18-324; ComponentLink1Description: Manufacturer URL; ComponentLink1URL: http://www.altera.com/; ComponentLink2Description: Handbook (7.86MB); ComponentLink2URL: http://www.altera.com/literature/hb/cyc3/cyclone3_handbook.pdf; ComponentLink3Description: Package Specification; ComponentLink3URL: http://www.altera.com/literature/ds/dspkg.pdf
footprint FBGA324 (BGA, 324-Leads, Body 19x19mm, Pitch 1mm)
part A pins: B1 IO, DIFFIO_L1n (io), B2 IO, DIFFIO_L1p, (DQ1L)/(DQ1L) (io), C1 IO, DIFFIO_L2n, (DQ1L)/(DQ1L) (io), C2 IO, DIFFIO_L2p (io), C3 IO, (nRESET) (io), D1 IO, DIFFIO_L3n, (DATA1, ASDO) (io), D2 IO, DIFFIO_L3p, (DQ1L)/(DQ1L) (io), D3 IO, (DQS2L/CQ3L,CDPCLK0)/(DQS2L/CQ3L,CDPCLK0) (io), E1 IO, DIFFIO_L4n, (DQ1L)/(DQ1L) (io), E2 IO, DIFFIO_L4p, (FLASH_nCE, nCSO) (io), F3 IO, VREFB1N0 (io), G1 IO, DIFFIO_L5n, (DQ1L)/(DQ1L) (io), G2 IO, DIFFIO_L5p, (DQ1L)/(DQ1L) (io), H1 IO, DIFFIO_L6n (io), H2 IO, DIFFIO_L6p, (DQS0L/CQ1L,DPCLK0)/(DQS0L/CQ1L,DPCLK0) (io), H3 IO, (DATA0) (io), H6 IO (io)
part B pins: K1 IO, DIFFIO_L7n, (DQ1L)/(DQ1L) (io), K2 IO, DIFFIO_L7p, (DQ1L)/(DQ1L) (io), K5 IO, DIFFIO_L8p, (DQ1L)/(DQ1L) (io), L1 IO, DIFFIO_L9n, (DQ3L)/(DQ1L) (io), L2 IO, DIFFIO_L9p, (DQ3L)/(DQ1L) (io), L3 IO, DIFFIO_L10n, (DQ3L)/(DQ1L) (io), L4 IO, DIFFIO_L10p, (DQ3L)/(DQ1L) (io), L5 IO, DIFFIO_L8n, (DM1L/BWS#1L)/(DM1L0/BWS#1L1) (io), L6 IO (io), M1 IO, DIFFIO_L11n (io), M2 IO, DIFFIO_L11p, (DQS1L/CQ1L#,DPCLK1)/(DQS1L/CQ1L#,DPCLK1) (io), M3 IO, VREFB2N0 (io), M5 IO, (DQS3L/CQ3L#,CDPCLK1)/(DQS3L/CQ3L#,CDPCLK1) (io), P1 IO, DIFFIO_L12n, (DQ3L)/(DQ1L) (io), P2 IO, DIFFIO_L12p, (DQ3L)/(DQ1L) (io), R1 IO, DIFFIO_L13n (io), R2 IO, DIFFIO_L13p, (DQ3L)/(DQ1L) (io), R3 IO, DIFFIO_L14n, (DQ3L)/(DQ1L) (io), R4 IO, DIFFIO_L15n, (DM3L/BWS#3L)/(DM1L1/BWS#1L2) (io), R5 IO, DIFFIO_L15p (io), T1 IO, RDN1 (io), T2 IO, RUP1 (io), T3 IO, DIFFIO_L14p, (DQ3L)/(DQ1L) (io)
part C pins: M6 IO, DIFFIO_B2p (io), N6 IO, DIFFIO_B2n (io), N7 IO (io), N8 IO (io), N9 IO (io), P6 IO, (DQS1B/CQ1B#,CDPCLK2)/(DQS1B/CQ1B#,CDPCLK2) (io), P7 IO (io), P8 IO, DIFFIO_B9p (io), P9 IO, DIFFIO_B9n, (DQ3B)/(DQ5B) (io), R8 IO, DIFFIO_B8p, (DQ3B)/(DQ5B) (io), T4 IO (io), T6 IO, VREFB3N0 (io), T8 IO, DIFFIO_B8n, (DQS5B/CQ5B#,DPCLK3)/(DQS5B/CQ5B#,DPCLK3) (io), U1 IO, DIFFIO_B1p (io), U2 IO, PLL1_CLKOUTp (io), U3 IO, DIFFIO_B5p, (DQS3B/CQ3B#,DPCLK2)/(DQS3B/CQ3B#,DPCLK2) (io), U4 IO, DIFFIO_B6p, (DQ3B)/(DQ5B) (io), U5 IO, DIFFIO_B7p (io), U6 IO, DIFFIO_B10p, (DQ3B)/(DQ5B) (io), U7 IO, DIFFIO_B11p (io), U8 IO, DIFFIO_B12p, (DQ3B)/(DQ5B) (io), V1 IO, DIFFIO_B1n (io), V2 IO, PLL1_CLKOUTn (io), V3 IO, DIFFIO_B5n, (DM3B/BWS#3B)/(DM5B1/BWS#5B2) (io), V4 IO, DIFFIO_B6n, (DQ3B)/(DQ5B) (io), V5 IO, DIFFIO_B7n, (DQ3B)/(DQ5B) (io), V6 IO, DIFFIO_B10n, (DQ3B)/(DQ5B) (io), V7 IO, DIFFIO_B11n, (DQ3B)/(DQ5B) (io), V8 IO, DIFFIO_B12n, (DM5B/BWS#5B)/(DM5B0/BWS#5B1) (io)
part D pins: M13 IO, DIFFIO_B25p (io), N10 IO, DIFFIO_B21p (io), N11 IO, DIFFIO_B21n (io), N12 IO, DIFFIO_B24n (io), N13 IO, DIFFIO_B25n (io), P10 IO, DIFFIO_B17p, (DQ5B)/(DQ5B) (io), P11 IO, DIFFIO_B17n (io), P12 IO, (DQS2B/CQ3B,DPCLK5)/(DQS2B/CQ3B,DPCLK5) (io), P13 IO, DIFFIO_B24p (io), R11 IO, (DQ5B)/(DQ5B) (io), R13 IO, (DQS0B/CQ1B,CDPCLK3)/(DQS0B/CQ1B,CDPCLK3) (io), T11 IO, VREFB4N0 (io), T13 IO, RUP2 (io), T14 IO, RDN2 (io), U11 IO, DIFFIO_B13p, (DQ5B)/(DQ5B) (io), U12 IO, DIFFIO_B14p, (DQ5B)/(DQ5B) (io), U13 IO, DIFFIO_B16p, (DQ5B)/(DQ5B) (io), U14 IO, DIFFIO_B18p, (DQ5B)/(DQ5B) (io), U15 IO, DIFFIO_B19p (io), U16 IO, DIFFIO_B20p (io), U17 IO, DIFFIO_B22p (io), U18 IO, PLL4_CLKOUTp (io), V11 IO, DIFFIO_B13n (io), V12 IO, DIFFIO_B14n (io), V13 IO, DIFFIO_B16n, (DQS4B/CQ5B,DPCLK4)/(DQS4B/CQ5B,DPCLK4) (io), V14 IO, DIFFIO_B18n, (DQ5B)/(DQ5B) (io), V15 IO, DIFFIO_B19n, (DQ5B)/(DQ5B) (io), V16 IO, DIFFIO_B20n, (DQ5B)/(DQ5B) (io), V17 IO, DIFFIO_B22n (io), V18 IO, PLL4_CLKOUTn (io)
part E pins: K17 IO, (DQ1R)/(DQ1R) (io), K18 IO, DIFFIO_R8p, (DM1R/BWS#1R)/(DM1R0/BWS#1R1) (io), L13 IO, DIFFIO_R12p, (DQ3R)/(DQ1R) (io), L14 IO, DIFFIO_R11p, (DQ3R)/(DQ1R) (io), L15 IO, DIFFIO_R11n, (DQ3R)/(DQ1R) (io), L16 IO, DIFFIO_R10p, (DQS1R/CQ1R#,DPCLK6)/(DQS1R/CQ1R#,DPCLK6) (io), L17 IO, DIFFIO_R9p, (DEV_CLRn) (io), L18 IO, DIFFIO_R8n (io), M14 IO, DIFFIO_R12n, (DQ3R)/(DQ1R) (io), M17 IO, DIFFIO_R10n, (DQ3R)/(DQ1R) (io), M18 IO, DIFFIO_R9n, (DEV_OE) (io), N15 IO, (DM3R/BWS#3R)/(DM1R1/BWS#1R2) (io), N16 IO, VREFB5N0 (io), P17 IO, DIFFIO_R13p, (DQ3R)/(DQ1R) (io), P18 IO, DIFFIO_R13n, (DQ3R)/(DQ1R) (io), R16 IO, RDN3 (io), R17 IO, DIFFIO_R14p (io), R18 IO, DIFFIO_R14n (io), T16 IO, RUP3, (DQ3R)/(DQ1R) (io), T17 IO, DIFFIO_R15p, (DQ3R)/(DQ1R) (io), T18 IO, DIFFIO_R15n, (DQS3R/CQ3R#,CDPCLK4)/(DQS3R/CQ3R#,CDPCLK4) (io)
part F pins: B17 IO, DIFFIO_R1p (io), B18 IO, DIFFIO_R1n, (PADD20), (DQS2R/CQ3R,CDPCLK5)/(DQS2R/CQ3R,CDPCLK5) (io), C17 IO, DIFFIO_R2p, (PADD21), (DQ1R)/(DQ1R) (io), C18 IO, DIFFIO_R2n, (PADD22), (DQ1R)/(DQ1R) (io), D17 IO, DIFFIO_R3p, (nOE), (DQ1R)/(DQ1R) (io), D18 IO, DIFFIO_R3n, (nWE), (DQ1R)/(DQ1R) (io), E17 IO, DIFFIO_R4p, (CLKUSR) (io), E18 IO, DIFFIO_R4n, (nCEO) (io), G14 IO, (PADD23), (DQ1R)/(DQ1R) (io), G17 IO, DIFFIO_R5p, (CRC_ERROR) (io), G18 IO, DIFFIO_R5n, (INIT_DONE) (io), H13 IO, (RDY), (DQ1R)/(DQ1R) (io), H14 IO, (nAVD), (DQ1R)/(DQ1R) (io), H15 IO, VREFB6N0 (io), H16 IO, (DQS0R/CQ1R,DPCLK7)/(DQS0R/CQ1R,DPCLK7) (io), H17 IO, DIFFIO_R6p, (DQ1R)/(DQ1R) (io), H18 IO, DIFFIO_R6n (io), J13 IO (io)
part G pins: A11 IO, DIFFIO_T13n, (PADD11), (DQ5T)/(DQ5T) (io), A12 IO, DIFFIO_T14n, (PADD9), (DQ5T)/(DQ5T) (io), A13 IO, DIFFIO_T15n, (PADD7) (io), A14 IO, DIFFIO_T16n, (PADD5), (DQ5T)/(DQ5T) (io), A15 IO, DIFFIO_T17n, (PADD3), (DQ5T)/(DQ5T) (io), A16 IO, DIFFIO_T19n, (PADD1) (io), A17 IO, DIFFIO_T22p (io), A18 IO, DIFFIO_T22n, (DQ5T)/(DQ5T) (io), B11 IO, DIFFIO_T13p, (PADD12), (DQS4T/CQ5T,DPCLK9)/(DQS4T/CQ5T,DPCLK9) (io), B12 IO, DIFFIO_T14p, (PADD10) (io), B13 IO, DIFFIO_T15p, (PADD8), (DQ5T)/(DQ5T) (io), B14 IO, DIFFIO_T16p, (PADD6), (DQ5T)/(DQ5T) (io), B15 IO, DIFFIO_T17p, (PADD4), (DQS2T/CQ3T,DPCLK8)/(DQS2T/CQ3T,DPCLK8) (io), B16 IO, DIFFIO_T19p, (PADD2), (DQ5T)/(DQ5T) (io), C10 IO, DIFFIO_T12n, (PADD13), (DM5T/BWS#5T)/(DM5T0/BWS#5T1) (io), C12 IO (io), C14 IO, PLL2_CLKOUTn (io), C16 IO, DIFFIO_T23n (io), D10 IO, DIFFIO_T12p, (PADD14) (io), D12 IO, VREFB7N0 (io), D14 IO, PLL2_CLKOUTp (io), D16 IO, DIFFIO_T23p, (DQS0T/CQ1T,CDPCLK6)/(DQS0T/CQ1T,CDPCLK6) (io), E11 IO (io), E12 IO, (PADD0), (DQ5T)/(DQ5T) (io), E13 IO, RDN4 (io), E14 IO, RUP4 (io), F10 IO, DIFFIO_T18p (io), F11 IO, DIFFIO_T18n (io), F12 IO (io), F13 IO, DIFFIO_T24n (io), G13 IO, DIFFIO_T24p (io)
part H pins: A1 IO, PLL3_CLKOUTn (io), A2 IO, PLL3_CLKOUTp (io), A3 IO, DIFFIO_T3n, (DATA10), (DM3T/BWS3T)/(DM5T1/BWS#5T2) (io), A4 IO, DIFFIO_T5n, (DATA7), (DQ3T)/(DQ5T) (io), A5 IO, DIFFIO_T7n, (DATA14), (DQS3T/CQ3T#,DPCLK11)/(DQS3T/CQ3T#,DPCLK11) (io), A6 IO, DIFFIO_T8n, (PADD19), (DQ3T)/(DQ5T) (io), A7 IO, DIFFIO_T9n, (PADD18), (DQ3T)/(DQ5T) (io), A8 IO, DIFFIO_T10n, (DATA2), (DQ3T)/(DQ5T) (io), B3 IO, DIFFIO_T3p, (DATA11) (io), B4 IO, DIFFIO_T5p, (DATA8) (io), B5 IO, DIFFIO_T7p, (DATA13) (io), B6 IO, DIFFIO_T8p, (DATA15) (io), B7 IO, DIFFIO_T9p, (DATA4), (DQ3T)/(DQ5T) (io), B8 IO, DIFFIO_T10p, (DATA3) (io), C5 IO, (DATA5), (DQ3T)/(DQ5T) (io), C7 IO, VREFB8N0 (io), C9 IO, DIFFIO_T11n, (PADD16), (DQ3T)/(DQ5T) (io), D5 IO, (DATA12), (DQS1T/CQ1T#,CDPCLK7)/(DQS1T/CQ1T#,CDPCLK7) (io), D7 IO (io), D9 IO, DIFFIO_T11p, (PADD17), (DQS5T/CQ5T#,DPCLK10)/(DQS5T/CQ5T#,DPCLK10) (io), E6 IO, DIFFIO_T2n (io), E7 IO, DIFFIO_T4n, (DATA9), (DQ3T)/(DQ5T) (io), E8 IO, DIFFIO_T6p, (DATA6), (DQ3T)/(DQ5T) (io), E9 IO (io), E10 IO, (PADD15) (io), F6 IO (io), F7 IO, DIFFIO_T2p (io), F8 IO, DIFFIO_T4p (io), F9 IO, DIFFIO_T6n (io), G6 IO (io)
part I pins: A9 CLK10, DIFFCLK_4n (in), A10 CLK8, DIFFCLK_5n (in), B9 CLK11, DIFFCLK_4p (in), B10 CLK9, DIFFCLK_5p (in), F1 CLK1, DIFFCLK_0n (in), F2 CLK0, DIFFCLK_0p (in), F17 CLK4, DIFFCLK_2p (in), F18 CLK5, DIFFCLK_2n (in), N1 CLK3, DIFFCLK_1n (in), N2 CLK2, DIFFCLK_1p (in), N17 CLK6, DIFFCLK_3p (in), N18 CLK7, DIFFCLK_3n (in), U9 CLK15, DIFFCLK_6p (in), U10 CLK13, DIFFCLK_7p (in), V9 CLK14, DIFFCLK_6n (in), V10 CLK12, DIFFCLK_7n (in)
part J pins: G5 nSTATUS (io), H4 DCLK (io), H5 nCONFIG (in), J1 TCK (in), J2 TMS (in), J5 TDO (out), J6 TDI (in), J14 MSEL3 (in), J17 MSEL2 (in), J18 MSEL1 (in), K6 nCE (in), K13 MSEL0 (in), K14 CONF_DONE (io)
part K pins: D4 VCCIO8 (power), D6 VCCIO8 (power), D8 VCCIO8 (power), D11 VCCIO7 (power), D13 VCCIO7 (power), D15 VCCIO7 (power), F4 VCCIO1 (power), F16 VCCIO6 (power), G4 VCCIO1 (power), G7 VCCINT (power), G8 VCCINT (power), G10 VCCINT (power), G11 VCCINT (power), G12 VCCINT (power), G15 VCCIO6 (power), H7 VCCINT (power), H12 VCCINT (power), J4 VCCIO1 (power), J7 VCCINT (power), J12 VCCINT (power), J15 VCCIO6 (power), K4 VCCIO2 (power), K7 VCCINT (power), K12 VCCINT (power), K15 VCCIO5 (power), L7 VCCINT (power), L12 VCCINT (power), M4 VCCIO2 (power), M7 VCCINT (power), M8 VCCINT (power), M9 VCCINT (power), M11 VCCINT (power), M12 VCCINT (power), M15 VCCIO5 (power), N4 VCCIO2 (power), R6 VCCIO3 (power), R7 VCCIO3 (power), R9 VCCIO3 (power), R10 VCCIO4 (power), R12 VCCIO4 (power), R14 VCCIO4 (power), R15 VCCIO5 (power)
part L pins: C4 GND (power), C6 GND (power), C8 GND (power), C11 GND (power), C13 GND (power), C15 GND (power), E3 GND (power), E16 GND (power), G3 GND (power), G9 GND (power), G16 GND (power), H8 GND (power), H9 GND (power), H10 GND (power), H11 GND (power), J3 GND (power), J8 GND (power), J9 GND (power), J10 GND (power), J11 GND (power), J16 GND (power), K3 GND (power), K8 GND (power), K9 GND (power), K10 GND (power), K11 GND (power), K16 GND (power), L8 GND (power), L9 GND (power), L10 GND (power), L11 GND (power), M10 GND (power), M16 GND (power), N3 GND (power), P3 GND (power), P16 GND (power), T5 GND (power), T7 GND (power), T9 GND (power), T10 GND (power), T12 GND (power), T15 GND (power)
part M pins: E4 VCCA3 (power), E5 GNDA3 (power), E15 VCCD_PLL2 (power), F5 VCCD_PLL3 (power), F14 VCCA2 (power), F15 GNDA2 (power), N5 VCCA1 (power), N14 VCCA4 (power), P4 VCCD_PLL1 (power), P5 GNDA1 (power), P14 GNDA4 (power), P15 VCCD_PLL4 (power)
part A text: BANK 1
part B text: BANK 2
part C text: BANK 3
part D text: BANK 4
part E text: BANK 5
part F text: BANK 6
part G text: BANK 7
part H text: BANK 8

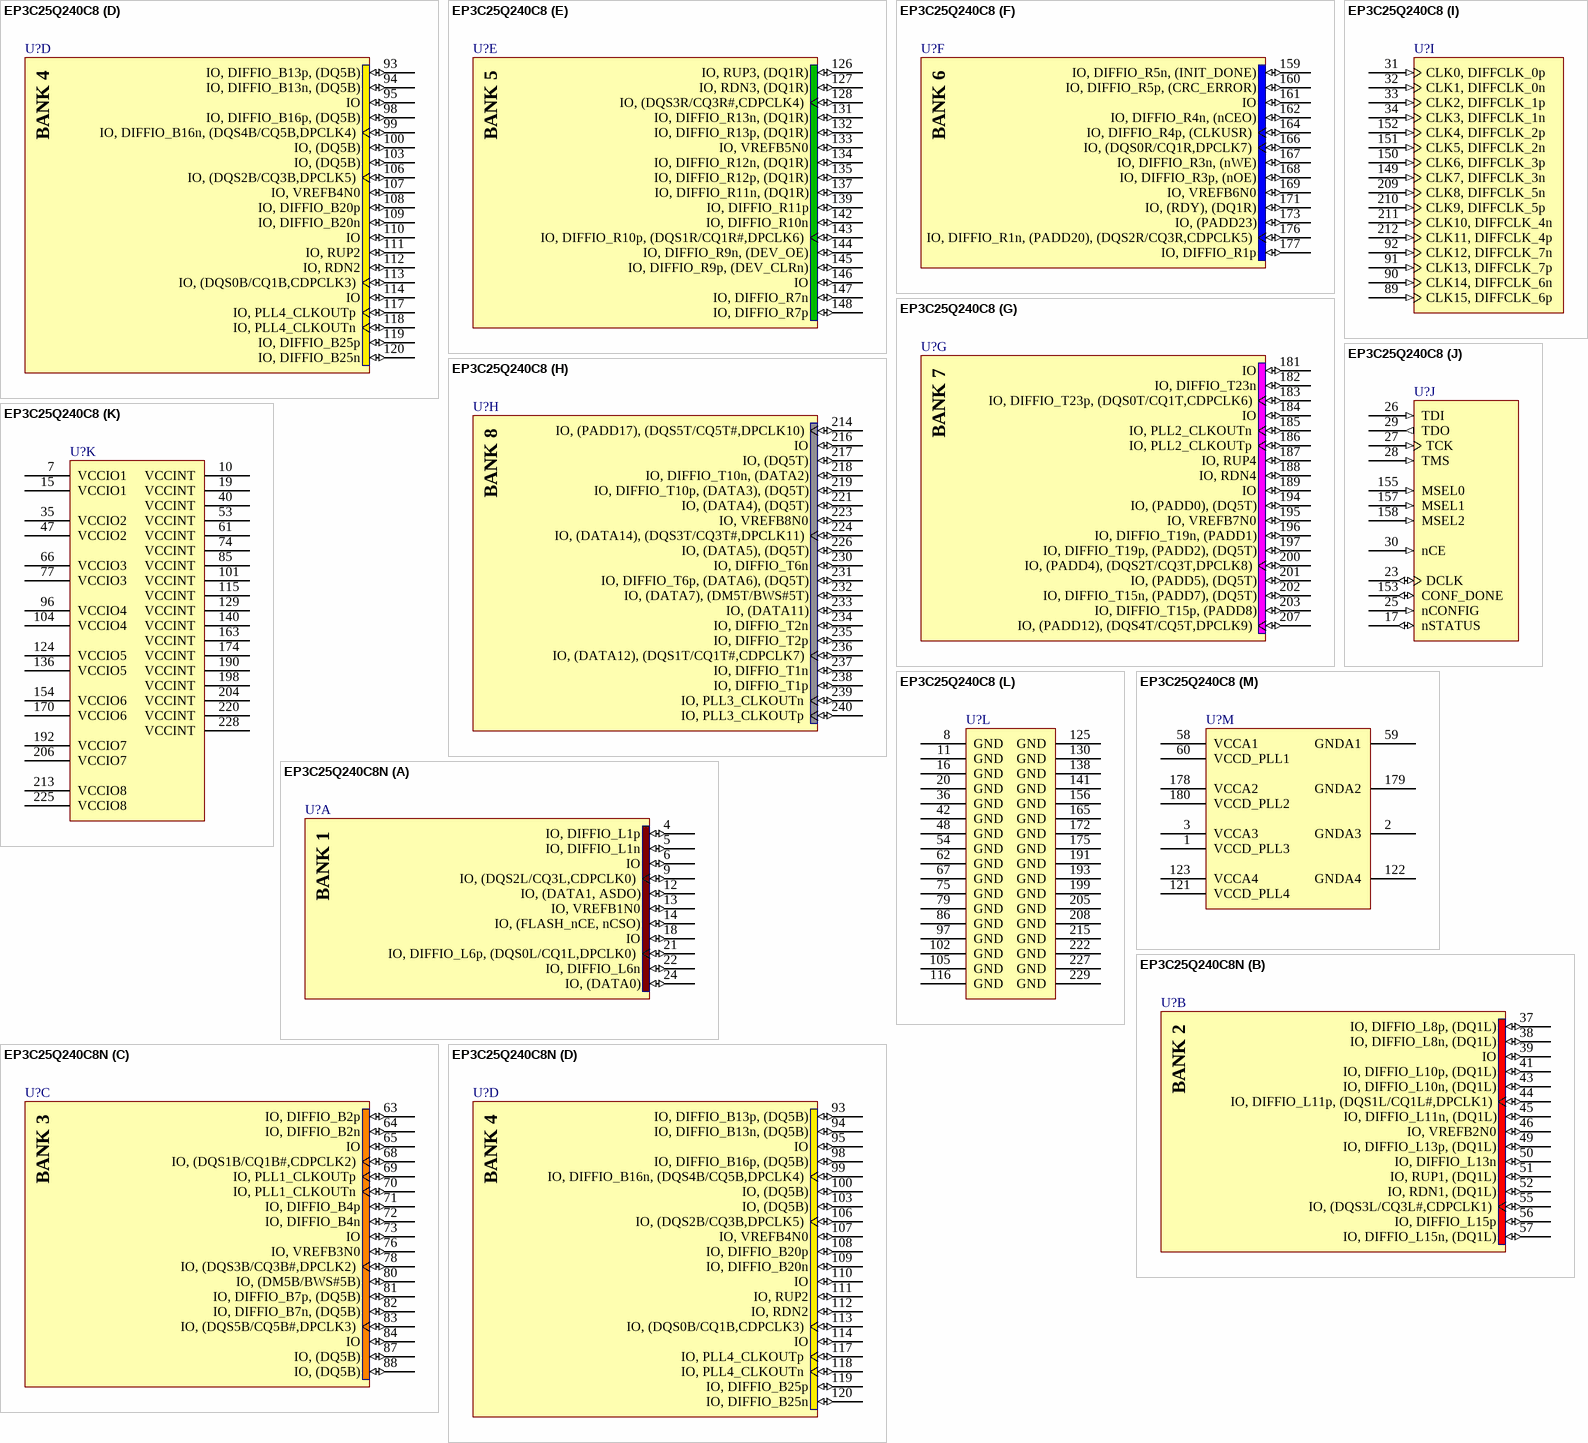
[diagram p153: symbols EP3C25Q240C8 to EP3C25Q240C8N]

## EP3C25Q240C8
designator U?
Cyclone III Family FPGA, 148 I/O Pins, 4 PLLs, 240-Pin PQFP, Speed Grade 8, Commercial Grade; DatasheetVersion: ver2.0, May-2008; PackageVersion: ver15.4, Dec-2008; PackageReference: PQFP240; PackageDescription: 240-Pin Plastic Quad Flat Pack (PQFP240) - Wire Bond; Code_JEDEC: MS-029-GA; ComponentLink1Description: Manufacturer URL; ComponentLink1URL: http://www.altera.com/; ComponentLink2Description: Handbook (7.86MB); ComponentLink2URL: http://www.altera.com/literature/hb/cyc3/cyclone3_handbook.pdf; ComponentLink3Description: Package Specification; ComponentLink3URL: http://www.altera.com/literature/ds/dspkg.pdf
footprint PQFP240_N (Shrink QFP, 240-Leads, Body 32x32mm, Pitch 0.5mm, IPC Medium Density)
footprint PQFP240_L (Shrink QFP, 240-Leads, Body 32x32mm, Pitch 0.5mm, IPC High Density)
footprint PQFP240_M (Shrink QFP, 240-Leads, Body 32x32mm, Pitch 0.5mm, IPC Low Density)
part A pins: 4 IO, DIFFIO_L1p (io), 5 IO, DIFFIO_L1n (io), 6 IO (io), 9 IO, (DQS2L/CQ3L,CDPCLK0) (io), 12 IO, (DATA1, ASDO) (io), 13 IO, VREFB1N0 (io), 14 IO, (FLASH_nCE, nCSO) (io), 18 IO (io), 21 IO, DIFFIO_L6p, (DQS0L/CQ1L,DPCLK0) (io), 22 IO, DIFFIO_L6n (io), 24 IO, (DATA0) (io)
part B pins: 37 IO, DIFFIO_L8p, (DQ1L) (io), 38 IO, DIFFIO_L8n, (DQ1L) (io), 39 IO (io), 41 IO, DIFFIO_L10p, (DQ1L) (io), 43 IO, DIFFIO_L10n, (DQ1L) (io), 44 IO, DIFFIO_L11p, (DQS1L/CQ1L#,DPCLK1) (io), 45 IO, DIFFIO_L11n, (DQ1L) (io), 46 IO, VREFB2N0 (io), 49 IO, DIFFIO_L13p, (DQ1L) (io), 50 IO, DIFFIO_L13n (io), 51 IO, RUP1, (DQ1L) (io), 52 IO, RDN1, (DQ1L) (io), 55 IO, (DQS3L/CQ3L#,CDPCLK1) (io), 56 IO, DIFFIO_L15p (io), 57 IO, DIFFIO_L15n, (DQ1L) (io)
part C pins: 63 IO, DIFFIO_B2p (io), 64 IO, DIFFIO_B2n (io), 65 IO (io), 68 IO, (DQS1B/CQ1B#,CDPCLK2) (io), 69 IO, PLL1_CLKOUTp (io), 70 IO, PLL1_CLKOUTn (io), 71 IO, DIFFIO_B4p (io), 72 IO, DIFFIO_B4n (io), 73 IO (io), 76 IO, VREFB3N0 (io), 78 IO, (DQS3B/CQ3B#,DPCLK2) (io), 80 IO, (DM5B/BWS#5B) (io), 81 IO, DIFFIO_B7p, (DQ5B) (io), 82 IO, DIFFIO_B7n, (DQ5B) (io), 83 IO, (DQS5B/CQ5B#,DPCLK3) (io), 84 IO (io), 87 IO, (DQ5B) (io), 88 IO, (DQ5B) (io)
part D pins: 93 IO, DIFFIO_B13p, (DQ5B) (io), 94 IO, DIFFIO_B13n, (DQ5B) (io), 95 IO (io), 98 IO, DIFFIO_B16p, (DQ5B) (io), 99 IO, DIFFIO_B16n, (DQS4B/CQ5B,DPCLK4) (io), 100 IO, (DQ5B) (io), 103 IO, (DQ5B) (io), 106 IO, (DQS2B/CQ3B,DPCLK5) (io), 107 IO, VREFB4N0 (io), 108 IO, DIFFIO_B20p (io), 109 IO, DIFFIO_B20n (io), 110 IO (io), 111 IO, RUP2 (io), 112 IO, RDN2 (io), 113 IO, (DQS0B/CQ1B,CDPCLK3) (io), 114 IO (io), 117 IO, PLL4_CLKOUTp (io), 118 IO, PLL4_CLKOUTn (io), 119 IO, DIFFIO_B25p (io), 120 IO, DIFFIO_B25n (io)
part E pins: 126 IO, RUP3, (DQ1R) (io), 127 IO, RDN3, (DQ1R) (io), 128 IO, (DQS3R/CQ3R#,CDPCLK4) (io), 131 IO, DIFFIO_R13n, (DQ1R) (io), 132 IO, DIFFIO_R13p, (DQ1R) (io), 133 IO, VREFB5N0 (io), 134 IO, DIFFIO_R12n, (DQ1R) (io), 135 IO, DIFFIO_R12p, (DQ1R) (io), 137 IO, DIFFIO_R11n, (DQ1R) (io), 139 IO, DIFFIO_R11p (io), 142 IO, DIFFIO_R10n (io), 143 IO, DIFFIO_R10p, (DQS1R/CQ1R#,DPCLK6) (io), 144 IO, DIFFIO_R9n, (DEV_OE) (io), 145 IO, DIFFIO_R9p, (DEV_CLRn) (io), 146 IO (io), 147 IO, DIFFIO_R7n (io), 148 IO, DIFFIO_R7p (io)
part F pins: 159 IO, DIFFIO_R5n, (INIT_DONE) (io), 160 IO, DIFFIO_R5p, (CRC_ERROR) (io), 161 IO (io), 162 IO, DIFFIO_R4n, (nCEO) (io), 164 IO, DIFFIO_R4p, (CLKUSR) (io), 166 IO, (DQS0R/CQ1R,DPCLK7) (io), 167 IO, DIFFIO_R3n, (nWE) (io), 168 IO, DIFFIO_R3p, (nOE) (io), 169 IO, VREFB6N0 (io), 171 IO, (RDY), (DQ1R) (io), 173 IO, (PADD23) (io), 176 IO, DIFFIO_R1n, (PADD20), (DQS2R/CQ3R,CDPCLK5) (io), 177 IO, DIFFIO_R1p (io)
part G pins: 181 IO (io), 182 IO, DIFFIO_T23n (io), 183 IO, DIFFIO_T23p, (DQS0T/CQ1T,CDPCLK6) (io), 184 IO (io), 185 IO, PLL2_CLKOUTn (io), 186 IO, PLL2_CLKOUTp (io), 187 IO, RUP4 (io), 188 IO, RDN4 (io), 189 IO (io), 194 IO, (PADD0), (DQ5T) (io), 195 IO, VREFB7N0 (io), 196 IO, DIFFIO_T19n, (PADD1) (io), 197 IO, DIFFIO_T19p, (PADD2), (DQ5T) (io), 200 IO, (PADD4), (DQS2T/CQ3T,DPCLK8) (io), 201 IO, (PADD5), (DQ5T) (io), 202 IO, DIFFIO_T15n, (PADD7), (DQ5T) (io), 203 IO, DIFFIO_T15p, (PADD8) (io), 207 IO, (PADD12), (DQS4T/CQ5T,DPCLK9) (io)
part H pins: 214 IO, (PADD17), (DQS5T/CQ5T#,DPCLK10) (io), 216 IO (io), 217 IO, (DQ5T) (io), 218 IO, DIFFIO_T10n, (DATA2) (io), 219 IO, DIFFIO_T10p, (DATA3), (DQ5T) (io), 221 IO, (DATA4), (DQ5T) (io), 223 IO, VREFB8N0 (io), 224 IO, (DATA14), (DQS3T/CQ3T#,DPCLK11) (io), 226 IO, (DATA5), (DQ5T) (io), 230 IO, DIFFIO_T6n (io), 231 IO, DIFFIO_T6p, (DATA6), (DQ5T) (io), 232 IO, (DATA7), (DM5T/BWS#5T) (io), 233 IO, (DATA11) (io), 234 IO, DIFFIO_T2n (io), 235 IO, DIFFIO_T2p (io), 236 IO, (DATA12), (DQS1T/CQ1T#,CDPCLK7) (io), 237 IO, DIFFIO_T1n (io), 238 IO, DIFFIO_T1p (io), 239 IO, PLL3_CLKOUTn (io), 240 IO, PLL3_CLKOUTp (io)
part I pins: 31 CLK0, DIFFCLK_0p (in), 32 CLK1, DIFFCLK_0n (in), 33 CLK2, DIFFCLK_1p (in), 34 CLK3, DIFFCLK_1n (in), 89 CLK15, DIFFCLK_6p (in), 90 CLK14, DIFFCLK_6n (in), 91 CLK13, DIFFCLK_7p (in), 92 CLK12, DIFFCLK_7n (in), 149 CLK7, DIFFCLK_3n (in), 150 CLK6, DIFFCLK_3p (in), 151 CLK5, DIFFCLK_2n (in), 152 CLK4, DIFFCLK_2p (in), 209 CLK8, DIFFCLK_5n (in), 210 CLK9, DIFFCLK_5p (in), 211 CLK10, DIFFCLK_4n (in), 212 CLK11, DIFFCLK_4p (in)
part J pins: 17 nSTATUS (io), 23 DCLK (io), 25 nCONFIG (in), 26 TDI (in), 27 TCK (in), 28 TMS (in), 29 TDO (out), 30 nCE (in), 153 CONF_DONE (io), 155 MSEL0 (in), 157 MSEL1 (in), 158 MSEL2 (in)
part K pins: 7 VCCIO1 (power), 10 VCCINT (power), 15 VCCIO1 (power), 19 VCCINT (power), 35 VCCIO2 (power), 40 VCCINT (power), 47 VCCIO2 (power), 53 VCCINT (power), 61 VCCINT (power), 66 VCCIO3 (power), 74 VCCINT (power), 77 VCCIO3 (power), 85 VCCINT (power), 96 VCCIO4 (power), 101 VCCINT (power), 104 VCCIO4 (power), 115 VCCINT (power), 124 VCCIO5 (power), 129 VCCINT (power), 136 VCCIO5 (power), 140 VCCINT (power), 154 VCCIO6 (power), 163 VCCINT (power), 170 VCCIO6 (power), 174 VCCINT (power), 190 VCCINT (power), 192 VCCIO7 (power), 198 VCCINT (power), 204 VCCINT (power), 206 VCCIO7 (power), 213 VCCIO8 (power), 220 VCCINT (power), 225 VCCIO8 (power), 228 VCCINT (power)
part L pins: 8 GND (power), 11 GND (power), 16 GND (power), 20 GND (power), 36 GND (power), 42 GND (power), 48 GND (power), 54 GND (power), 62 GND (power), 67 GND (power), 75 GND (power), 79 GND (power), 86 GND (power), 97 GND (power), 102 GND (power), 105 GND (power), 116 GND (power), 125 GND (power), 130 GND (power), 138 GND (power), 141 GND (power), 156 GND (power), 165 GND (power), 172 GND (power), 175 GND (power), 191 GND (power), 193 GND (power), 199 GND (power), 205 GND (power), 208 GND (power), 215 GND (power), 222 GND (power), 227 GND (power), 229 GND (power)
part M pins: 1 VCCD_PLL3 (power), 2 GNDA3 (power), 3 VCCA3 (power), 58 VCCA1 (power), 59 GNDA1 (power), 60 VCCD_PLL1 (power), 121 VCCD_PLL4 (power), 122 GNDA4 (power), 123 VCCA4 (power), 178 VCCA2 (power), 179 GNDA2 (power), 180 VCCD_PLL2 (power)
part A text: BANK 1
part B text: BANK 2
part C text: BANK 3
part D text: BANK 4
part E text: BANK 5
part F text: BANK 6
part G text: BANK 7
part H text: BANK 8

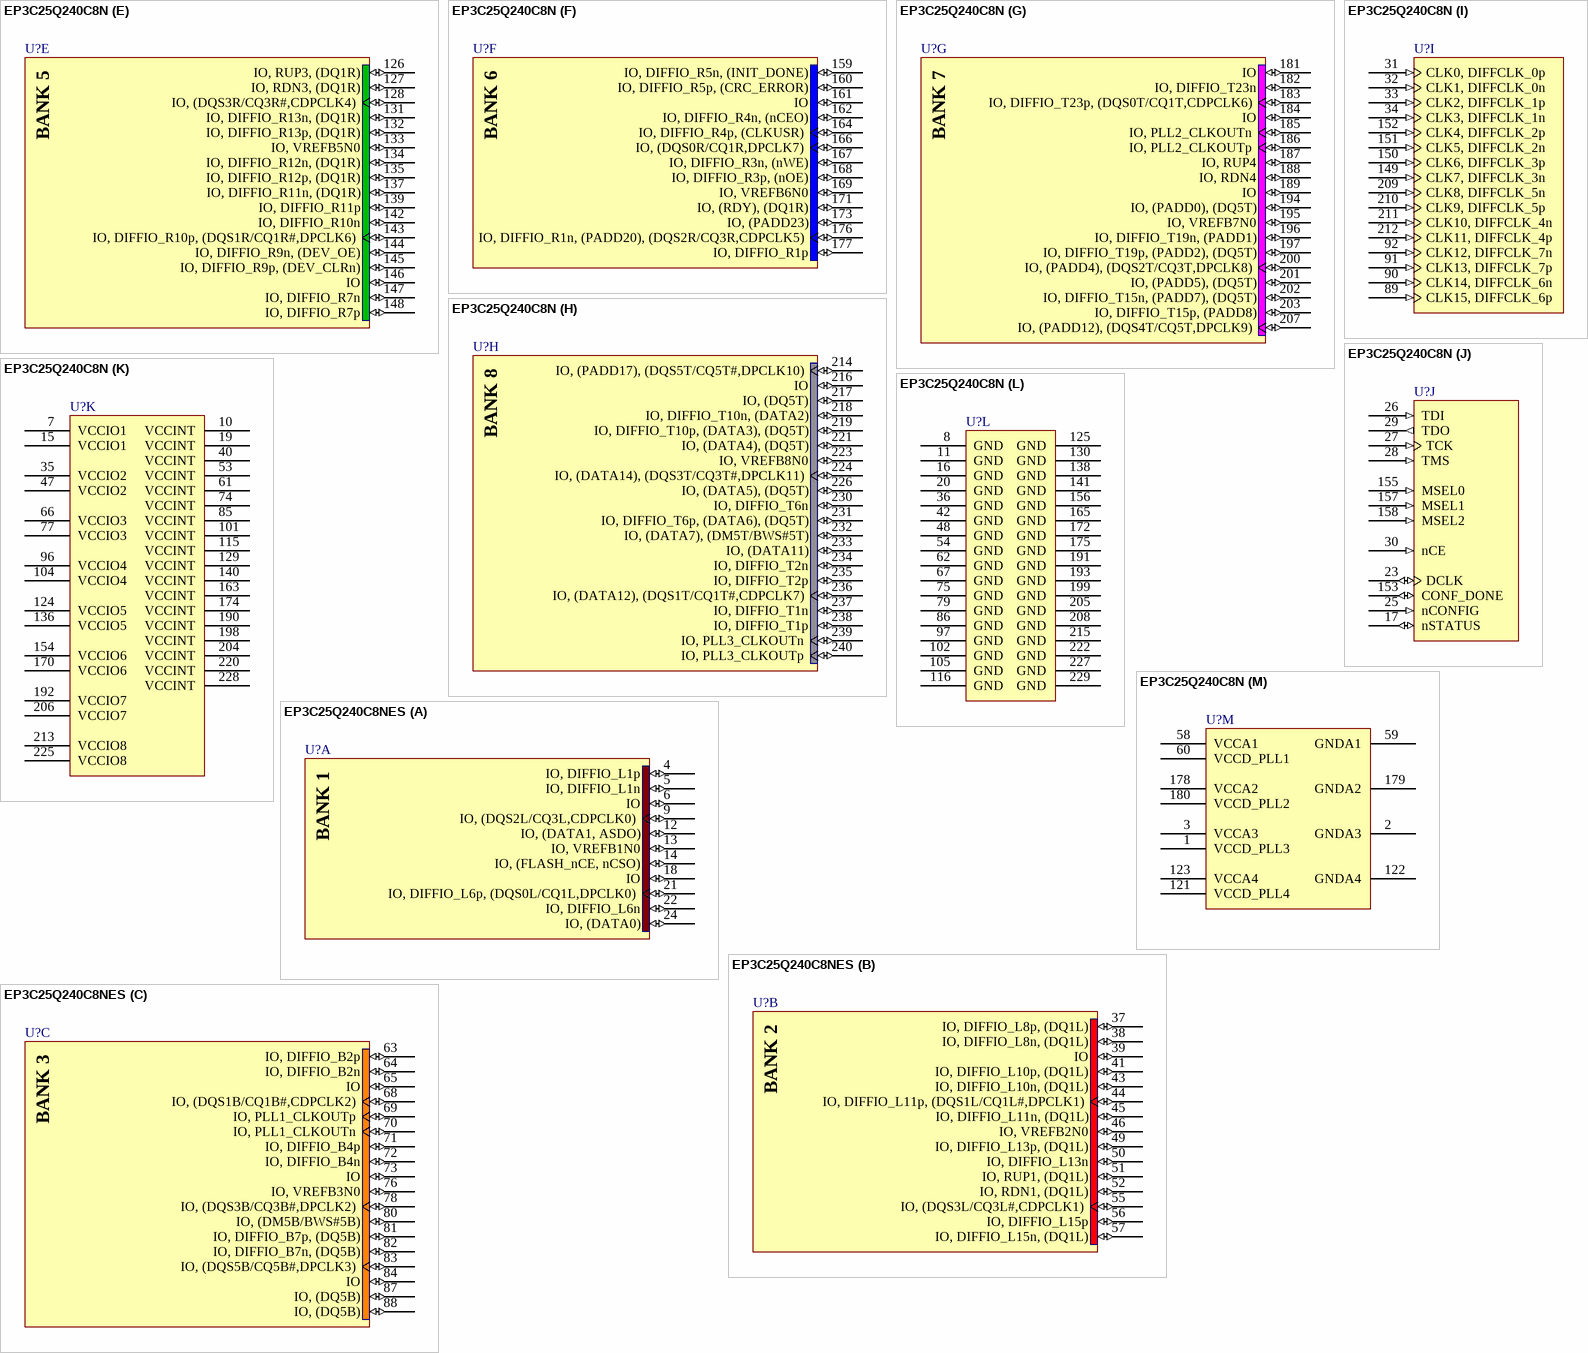
[diagram p154: symbols EP3C25Q240C8N to EP3C25Q240C8NES]

## EP3C25Q240C8N
designator U?
Cyclone III Family FPGA, 148 I/O Pins, 4 PLLs, 240-Pin PQFP, Speed Grade 8, Commercial Grade, Pb-Free; DatasheetVersion: ver2.0, May-2008; PackageVersion: ver15.4, Dec-2008; PackageReference: PQFP240; PackageDescription: 240-Pin Plastic Quad Flat Pack (PQFP240) - Wire Bond; Code_JEDEC: MS-029-GA; ComponentLink1Description: Manufacturer URL; ComponentLink1URL: http://www.altera.com/; ComponentLink2Description: Handbook (7.86MB); ComponentLink2URL: http://www.altera.com/literature/hb/cyc3/cyclone3_handbook.pdf; ComponentLink3Description: Package Specification; ComponentLink3URL: http://www.altera.com/literature/ds/dspkg.pdf
footprint PQFP240_N (Shrink QFP, 240-Leads, Body 32x32mm, Pitch 0.5mm, IPC Medium Density)
footprint PQFP240_L (Shrink QFP, 240-Leads, Body 32x32mm, Pitch 0.5mm, IPC High Density)
footprint PQFP240_M (Shrink QFP, 240-Leads, Body 32x32mm, Pitch 0.5mm, IPC Low Density)
part A pins: 4 IO, DIFFIO_L1p (io), 5 IO, DIFFIO_L1n (io), 6 IO (io), 9 IO, (DQS2L/CQ3L,CDPCLK0) (io), 12 IO, (DATA1, ASDO) (io), 13 IO, VREFB1N0 (io), 14 IO, (FLASH_nCE, nCSO) (io), 18 IO (io), 21 IO, DIFFIO_L6p, (DQS0L/CQ1L,DPCLK0) (io), 22 IO, DIFFIO_L6n (io), 24 IO, (DATA0) (io)
part B pins: 37 IO, DIFFIO_L8p, (DQ1L) (io), 38 IO, DIFFIO_L8n, (DQ1L) (io), 39 IO (io), 41 IO, DIFFIO_L10p, (DQ1L) (io), 43 IO, DIFFIO_L10n, (DQ1L) (io), 44 IO, DIFFIO_L11p, (DQS1L/CQ1L#,DPCLK1) (io), 45 IO, DIFFIO_L11n, (DQ1L) (io), 46 IO, VREFB2N0 (io), 49 IO, DIFFIO_L13p, (DQ1L) (io), 50 IO, DIFFIO_L13n (io), 51 IO, RUP1, (DQ1L) (io), 52 IO, RDN1, (DQ1L) (io), 55 IO, (DQS3L/CQ3L#,CDPCLK1) (io), 56 IO, DIFFIO_L15p (io), 57 IO, DIFFIO_L15n, (DQ1L) (io)
part C pins: 63 IO, DIFFIO_B2p (io), 64 IO, DIFFIO_B2n (io), 65 IO (io), 68 IO, (DQS1B/CQ1B#,CDPCLK2) (io), 69 IO, PLL1_CLKOUTp (io), 70 IO, PLL1_CLKOUTn (io), 71 IO, DIFFIO_B4p (io), 72 IO, DIFFIO_B4n (io), 73 IO (io), 76 IO, VREFB3N0 (io), 78 IO, (DQS3B/CQ3B#,DPCLK2) (io), 80 IO, (DM5B/BWS#5B) (io), 81 IO, DIFFIO_B7p, (DQ5B) (io), 82 IO, DIFFIO_B7n, (DQ5B) (io), 83 IO, (DQS5B/CQ5B#,DPCLK3) (io), 84 IO (io), 87 IO, (DQ5B) (io), 88 IO, (DQ5B) (io)
part D pins: 93 IO, DIFFIO_B13p, (DQ5B) (io), 94 IO, DIFFIO_B13n, (DQ5B) (io), 95 IO (io), 98 IO, DIFFIO_B16p, (DQ5B) (io), 99 IO, DIFFIO_B16n, (DQS4B/CQ5B,DPCLK4) (io), 100 IO, (DQ5B) (io), 103 IO, (DQ5B) (io), 106 IO, (DQS2B/CQ3B,DPCLK5) (io), 107 IO, VREFB4N0 (io), 108 IO, DIFFIO_B20p (io), 109 IO, DIFFIO_B20n (io), 110 IO (io), 111 IO, RUP2 (io), 112 IO, RDN2 (io), 113 IO, (DQS0B/CQ1B,CDPCLK3) (io), 114 IO (io), 117 IO, PLL4_CLKOUTp (io), 118 IO, PLL4_CLKOUTn (io), 119 IO, DIFFIO_B25p (io), 120 IO, DIFFIO_B25n (io)
part E pins: 126 IO, RUP3, (DQ1R) (io), 127 IO, RDN3, (DQ1R) (io), 128 IO, (DQS3R/CQ3R#,CDPCLK4) (io), 131 IO, DIFFIO_R13n, (DQ1R) (io), 132 IO, DIFFIO_R13p, (DQ1R) (io), 133 IO, VREFB5N0 (io), 134 IO, DIFFIO_R12n, (DQ1R) (io), 135 IO, DIFFIO_R12p, (DQ1R) (io), 137 IO, DIFFIO_R11n, (DQ1R) (io), 139 IO, DIFFIO_R11p (io), 142 IO, DIFFIO_R10n (io), 143 IO, DIFFIO_R10p, (DQS1R/CQ1R#,DPCLK6) (io), 144 IO, DIFFIO_R9n, (DEV_OE) (io), 145 IO, DIFFIO_R9p, (DEV_CLRn) (io), 146 IO (io), 147 IO, DIFFIO_R7n (io), 148 IO, DIFFIO_R7p (io)
part F pins: 159 IO, DIFFIO_R5n, (INIT_DONE) (io), 160 IO, DIFFIO_R5p, (CRC_ERROR) (io), 161 IO (io), 162 IO, DIFFIO_R4n, (nCEO) (io), 164 IO, DIFFIO_R4p, (CLKUSR) (io), 166 IO, (DQS0R/CQ1R,DPCLK7) (io), 167 IO, DIFFIO_R3n, (nWE) (io), 168 IO, DIFFIO_R3p, (nOE) (io), 169 IO, VREFB6N0 (io), 171 IO, (RDY), (DQ1R) (io), 173 IO, (PADD23) (io), 176 IO, DIFFIO_R1n, (PADD20), (DQS2R/CQ3R,CDPCLK5) (io), 177 IO, DIFFIO_R1p (io)
part G pins: 181 IO (io), 182 IO, DIFFIO_T23n (io), 183 IO, DIFFIO_T23p, (DQS0T/CQ1T,CDPCLK6) (io), 184 IO (io), 185 IO, PLL2_CLKOUTn (io), 186 IO, PLL2_CLKOUTp (io), 187 IO, RUP4 (io), 188 IO, RDN4 (io), 189 IO (io), 194 IO, (PADD0), (DQ5T) (io), 195 IO, VREFB7N0 (io), 196 IO, DIFFIO_T19n, (PADD1) (io), 197 IO, DIFFIO_T19p, (PADD2), (DQ5T) (io), 200 IO, (PADD4), (DQS2T/CQ3T,DPCLK8) (io), 201 IO, (PADD5), (DQ5T) (io), 202 IO, DIFFIO_T15n, (PADD7), (DQ5T) (io), 203 IO, DIFFIO_T15p, (PADD8) (io), 207 IO, (PADD12), (DQS4T/CQ5T,DPCLK9) (io)
part H pins: 214 IO, (PADD17), (DQS5T/CQ5T#,DPCLK10) (io), 216 IO (io), 217 IO, (DQ5T) (io), 218 IO, DIFFIO_T10n, (DATA2) (io), 219 IO, DIFFIO_T10p, (DATA3), (DQ5T) (io), 221 IO, (DATA4), (DQ5T) (io), 223 IO, VREFB8N0 (io), 224 IO, (DATA14), (DQS3T/CQ3T#,DPCLK11) (io), 226 IO, (DATA5), (DQ5T) (io), 230 IO, DIFFIO_T6n (io), 231 IO, DIFFIO_T6p, (DATA6), (DQ5T) (io), 232 IO, (DATA7), (DM5T/BWS#5T) (io), 233 IO, (DATA11) (io), 234 IO, DIFFIO_T2n (io), 235 IO, DIFFIO_T2p (io), 236 IO, (DATA12), (DQS1T/CQ1T#,CDPCLK7) (io), 237 IO, DIFFIO_T1n (io), 238 IO, DIFFIO_T1p (io), 239 IO, PLL3_CLKOUTn (io), 240 IO, PLL3_CLKOUTp (io)
part I pins: 31 CLK0, DIFFCLK_0p (in), 32 CLK1, DIFFCLK_0n (in), 33 CLK2, DIFFCLK_1p (in), 34 CLK3, DIFFCLK_1n (in), 89 CLK15, DIFFCLK_6p (in), 90 CLK14, DIFFCLK_6n (in), 91 CLK13, DIFFCLK_7p (in), 92 CLK12, DIFFCLK_7n (in), 149 CLK7, DIFFCLK_3n (in), 150 CLK6, DIFFCLK_3p (in), 151 CLK5, DIFFCLK_2n (in), 152 CLK4, DIFFCLK_2p (in), 209 CLK8, DIFFCLK_5n (in), 210 CLK9, DIFFCLK_5p (in), 211 CLK10, DIFFCLK_4n (in), 212 CLK11, DIFFCLK_4p (in)
part J pins: 17 nSTATUS (io), 23 DCLK (io), 25 nCONFIG (in), 26 TDI (in), 27 TCK (in), 28 TMS (in), 29 TDO (out), 30 nCE (in), 153 CONF_DONE (io), 155 MSEL0 (in), 157 MSEL1 (in), 158 MSEL2 (in)
part K pins: 7 VCCIO1 (power), 10 VCCINT (power), 15 VCCIO1 (power), 19 VCCINT (power), 35 VCCIO2 (power), 40 VCCINT (power), 47 VCCIO2 (power), 53 VCCINT (power), 61 VCCINT (power), 66 VCCIO3 (power), 74 VCCINT (power), 77 VCCIO3 (power), 85 VCCINT (power), 96 VCCIO4 (power), 101 VCCINT (power), 104 VCCIO4 (power), 115 VCCINT (power), 124 VCCIO5 (power), 129 VCCINT (power), 136 VCCIO5 (power), 140 VCCINT (power), 154 VCCIO6 (power), 163 VCCINT (power), 170 VCCIO6 (power), 174 VCCINT (power), 190 VCCINT (power), 192 VCCIO7 (power), 198 VCCINT (power), 204 VCCINT (power), 206 VCCIO7 (power), 213 VCCIO8 (power), 220 VCCINT (power), 225 VCCIO8 (power), 228 VCCINT (power)
part L pins: 8 GND (power), 11 GND (power), 16 GND (power), 20 GND (power), 36 GND (power), 42 GND (power), 48 GND (power), 54 GND (power), 62 GND (power), 67 GND (power), 75 GND (power), 79 GND (power), 86 GND (power), 97 GND (power), 102 GND (power), 105 GND (power), 116 GND (power), 125 GND (power), 130 GND (power), 138 GND (power), 141 GND (power), 156 GND (power), 165 GND (power), 172 GND (power), 175 GND (power), 191 GND (power), 193 GND (power), 199 GND (power), 205 GND (power), 208 GND (power), 215 GND (power), 222 GND (power), 227 GND (power), 229 GND (power)
part M pins: 1 VCCD_PLL3 (power), 2 GNDA3 (power), 3 VCCA3 (power), 58 VCCA1 (power), 59 GNDA1 (power), 60 VCCD_PLL1 (power), 121 VCCD_PLL4 (power), 122 GNDA4 (power), 123 VCCA4 (power), 178 VCCA2 (power), 179 GNDA2 (power), 180 VCCD_PLL2 (power)
part A text: BANK 1
part B text: BANK 2
part C text: BANK 3
part D text: BANK 4
part E text: BANK 5
part F text: BANK 6
part G text: BANK 7
part H text: BANK 8

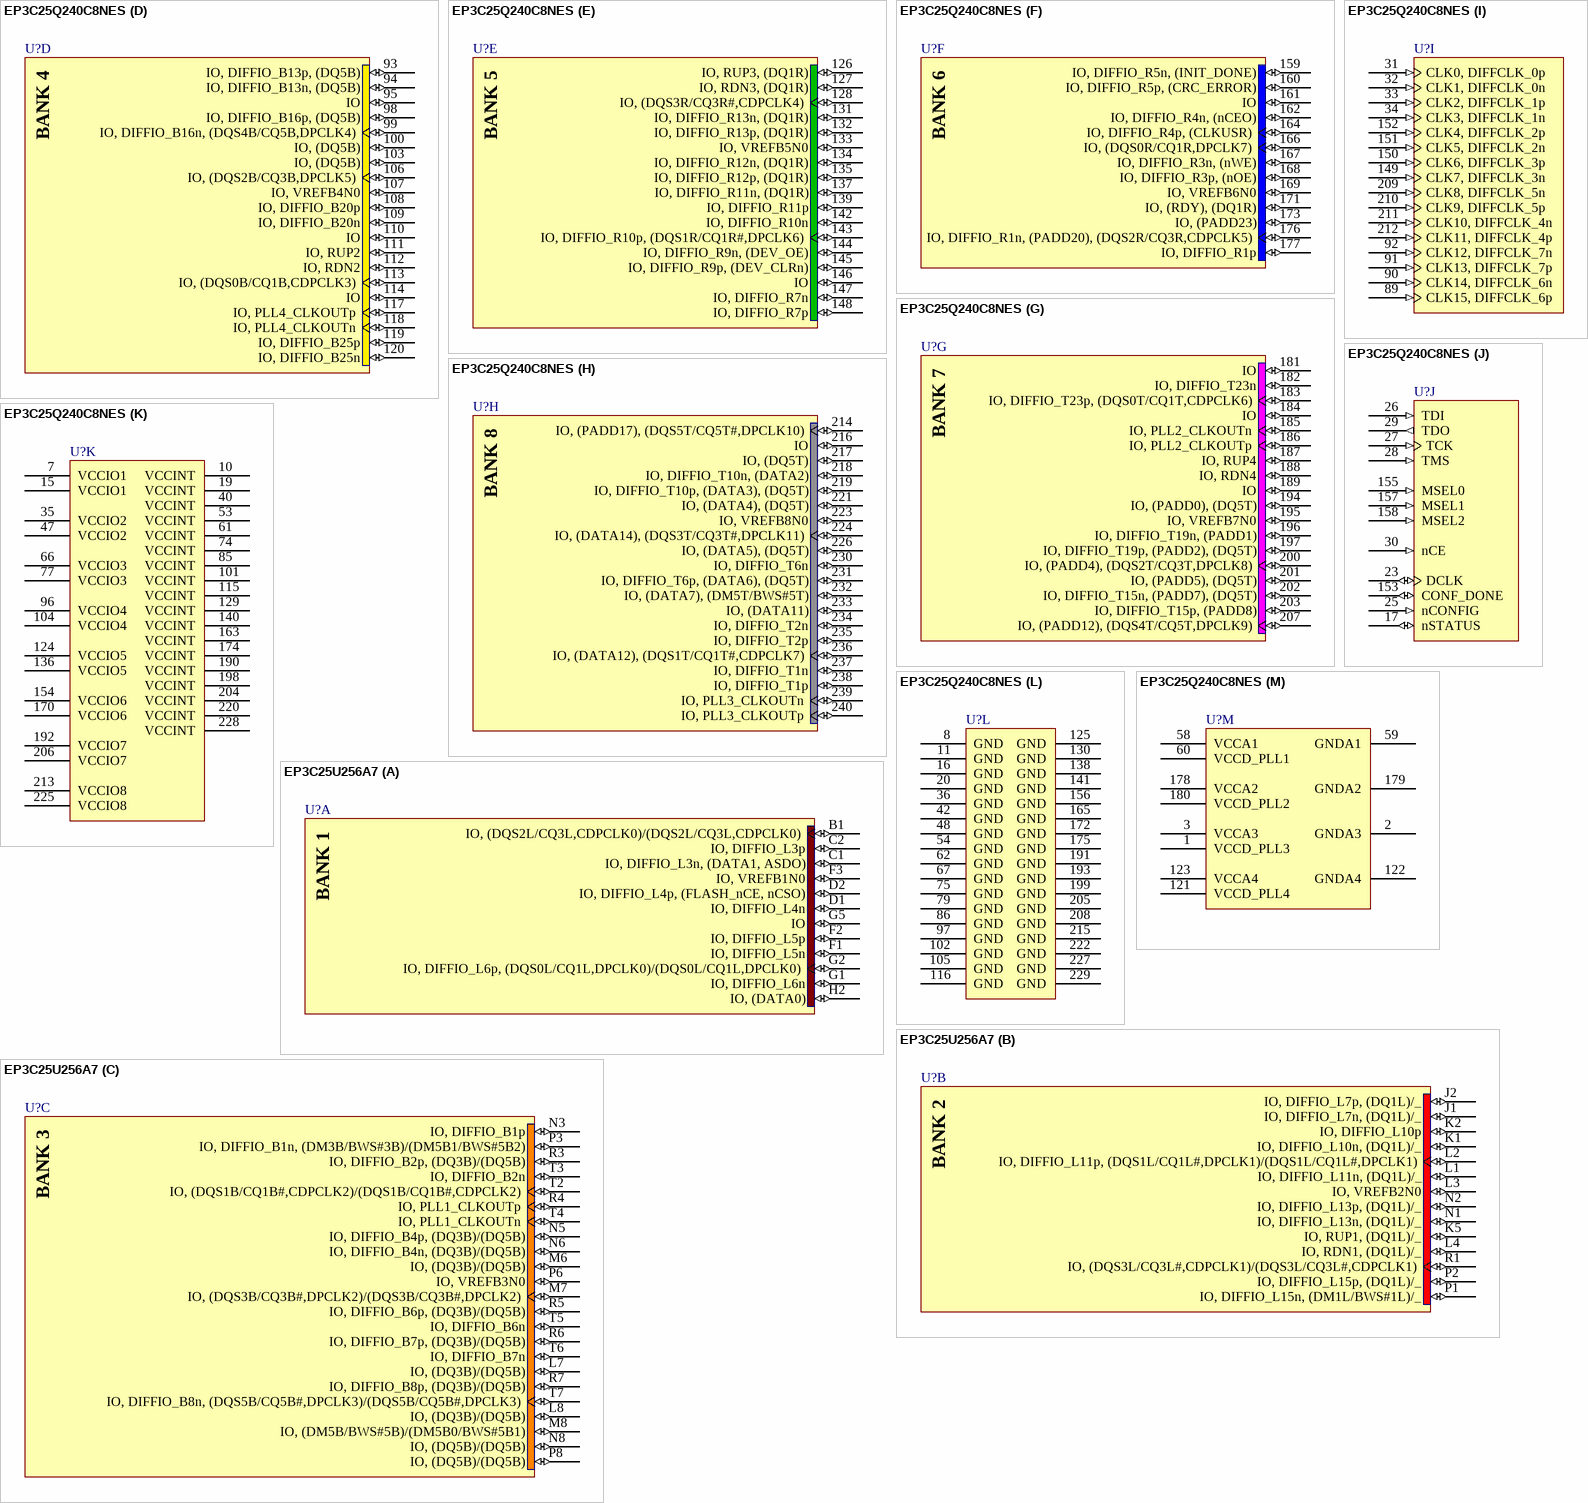
[diagram p155: symbols EP3C25Q240C8NES to EP3C25U256A7]